# Altium schematic symbol library 74ac-logic.SCHLIB: 136 symbols (part 1 of 2)
Pins are listed as number, name and electrical type; pins without a type are passive.

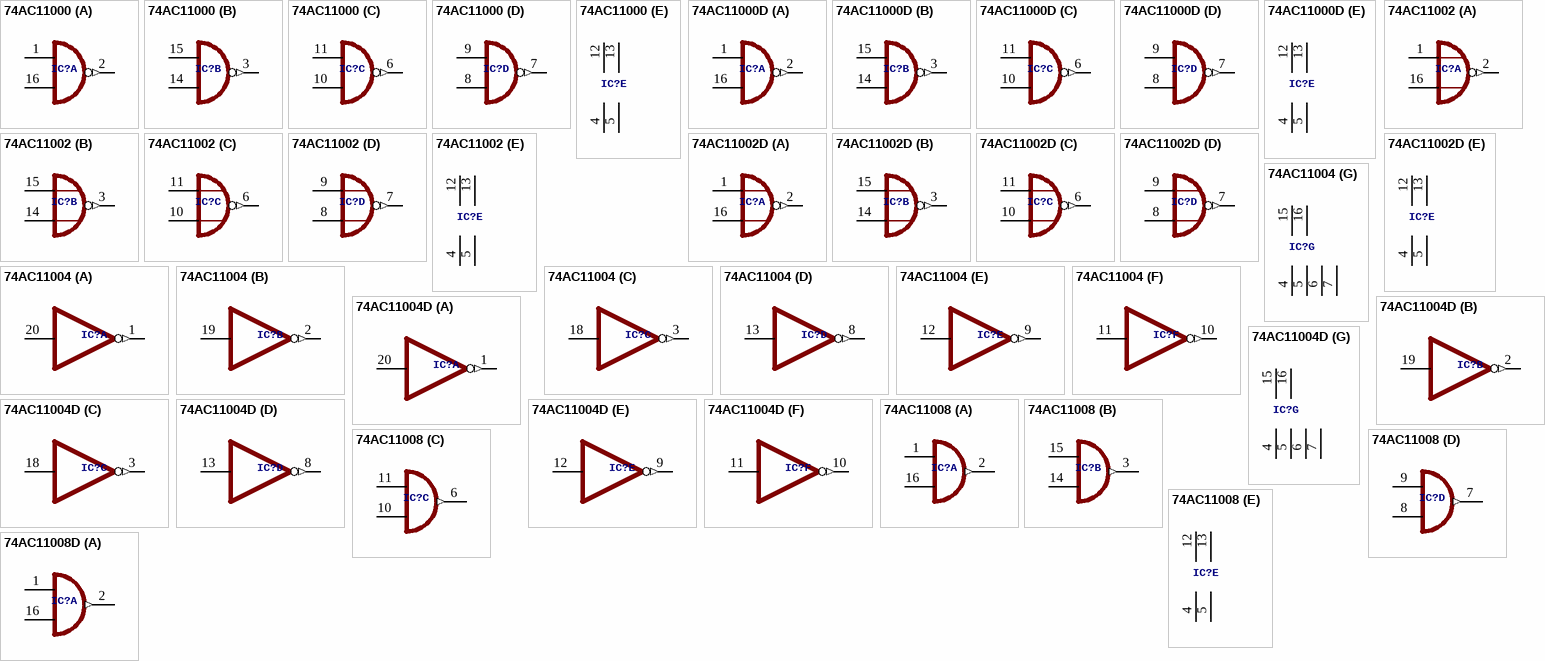
[diagram p0: symbols 74AC11000 to 74AC11008D]

## 74AC11000
designator IC?, comment Quadruple 2-input NAND  (value not drawn)
footprint DIL16
part A pins: 1 I0, 2 O (out), 16 I1
part B pins: 3 O (out), 14 I1, 15 I0
part C pins: 6 O (out), 10 I1, 11 I0
part D pins: 7 O (out), 8 I1, 9 I0
part E pins: 4 GND@1 (power), 5 GND@2 (power), 12 VCC@1 (power), 13 VCC@2 (power)

## 74AC11000D
designator IC?, comment Quadruple 2-input NAND  (value not drawn)
footprint SO16
part A pins: 1 I0, 2 O (out), 16 I1
part B pins: 3 O (out), 14 I1, 15 I0
part C pins: 6 O (out), 10 I1, 11 I0
part D pins: 7 O (out), 8 I1, 9 I0
part E pins: 4 GND@1 (power), 5 GND@2 (power), 12 VCC@1 (power), 13 VCC@2 (power)

## 74AC11002
designator IC?, comment Quadruple 2-input NOR  (value not drawn)
footprint DIL16
part A pins: 1 I0, 2 O (out), 16 I1
part B pins: 3 O (out), 14 I1, 15 I0
part C pins: 6 O (out), 10 I1, 11 I0
part D pins: 7 O (out), 8 I1, 9 I0
part E pins: 4 GND@1 (power), 5 GND@2 (power), 12 VCC@1 (power), 13 VCC@2 (power)

## 74AC11002D
designator IC?, comment Quadruple 2-input NOR  (value not drawn)
footprint SO16
part A pins: 1 I0, 2 O (out), 16 I1
part B pins: 3 O (out), 14 I1, 15 I0
part C pins: 6 O (out), 10 I1, 11 I0
part D pins: 7 O (out), 8 I1, 9 I0
part E pins: 4 GND@1 (power), 5 GND@2 (power), 12 VCC@1 (power), 13 VCC@2 (power)

## 74AC11004
designator IC?, comment Hex INVERTER  (value not drawn)
footprint DIL20
part A pins: 1 O (out), 20 I
part B pins: 2 O (out), 19 I
part C pins: 3 O (out), 18 I
part D pins: 8 O (out), 13 I
part E pins: 9 O (out), 12 I
part F pins: 10 O (out), 11 I
part G pins: 4 GND@1 (power), 5 GND@2 (power), 6 GND@3 (power), 7 GND@4 (power), 15 VCC@1 (power), 16 VCC@2 (power)

## 74AC11004D
designator IC?, comment Hex INVERTER  (value not drawn)
footprint SO20W
part A pins: 1 O (out), 20 I
part B pins: 2 O (out), 19 I
part C pins: 3 O (out), 18 I
part D pins: 8 O (out), 13 I
part E pins: 9 O (out), 12 I
part F pins: 10 O (out), 11 I
part G pins: 4 GND@1 (power), 5 GND@2 (power), 6 GND@3 (power), 7 GND@4 (power), 15 VCC@1 (power), 16 VCC@2 (power)

## 74AC11008
designator IC?, comment Quadruple 2-input AND  (value not drawn)
footprint DIL16
part A pins: 1 I0, 2 O (out), 16 I1
part B pins: 3 O (out), 14 I1, 15 I0
part C pins: 6 O (out), 10 I1, 11 I0
part D pins: 7 O (out), 8 I1, 9 I0
part E pins: 4 GND@1 (power), 5 GND@2 (power), 12 VCC@1 (power), 13 VCC@2 (power)

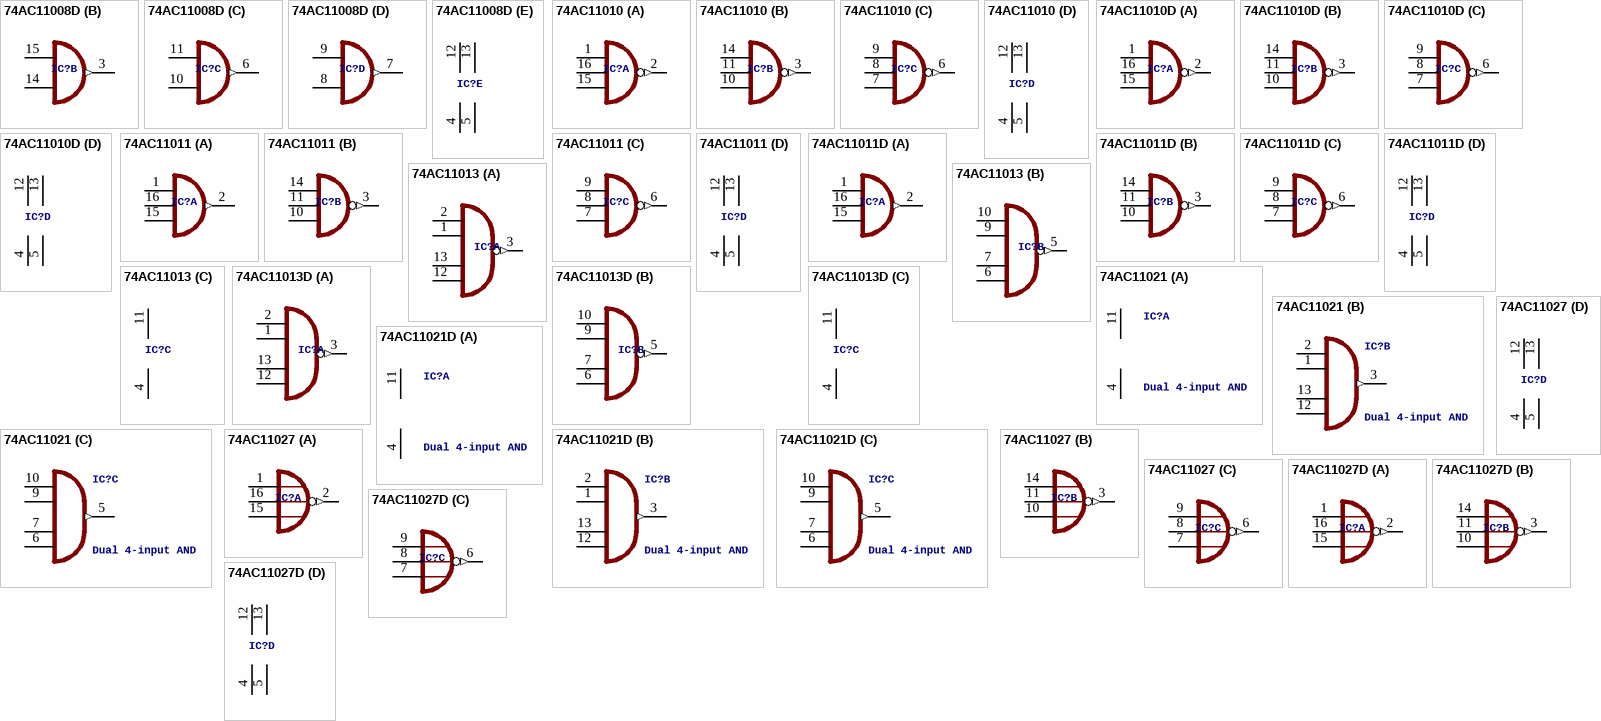
[diagram p1: symbols 74AC11008D to 74AC11027D]

## 74AC11008D
designator IC?, comment Quadruple 2-input AND  (value not drawn)
footprint SO16
part A pins: 1 I0, 2 O (out), 16 I1
part B pins: 3 O (out), 14 I1, 15 I0
part C pins: 6 O (out), 10 I1, 11 I0
part D pins: 7 O (out), 8 I1, 9 I0
part E pins: 4 GND@1 (power), 5 GND@2 (power), 12 VCC@1 (power), 13 VCC@2 (power)

## 74AC11010
designator IC?, comment Triple 3-input NAND  (value not drawn)
footprint DIL16
part A pins: 1 I0, 2 O (out), 15 I2, 16 I1
part B pins: 3 O (out), 10 I2, 11 I1, 14 I0
part C pins: 6 O (out), 7 I2, 8 I1, 9 I0
part D pins: 4 GND@1 (power), 5 GND@2 (power), 12 VCC@1 (power), 13 VCC@2 (power)

## 74AC11010D
designator IC?, comment Triple 3-input NAND  (value not drawn)
footprint SO16
part A pins: 1 I0, 2 O (out), 15 I2, 16 I1
part B pins: 3 O (out), 10 I2, 11 I1, 14 I0
part C pins: 6 O (out), 7 I2, 8 I1, 9 I0
part D pins: 4 GND@1 (power), 5 GND@2 (power), 12 VCC@1 (power), 13 VCC@2 (power)

## 74AC11011
designator IC?, comment Triple 3-input AND  (value not drawn)
footprint DIL16
part A pins: 1 I0, 2 O (out), 15 I2, 16 I1
part B pins: 3 O (out), 10 I2, 11 I1, 14 I0
part C pins: 6 O (out), 7 I2, 8 I1, 9 I0
part D pins: 4 GND@1 (power), 5 GND@2 (power), 12 VCC@1 (power), 13 VCC@2 (power)

## 74AC11011D
designator IC?, comment Triple 3-input AND  (value not drawn)
footprint SO16
part A pins: 1 I0, 2 O (out), 15 I2, 16 I1
part B pins: 3 O (out), 10 I2, 11 I1, 14 I0
part C pins: 6 O (out), 7 I2, 8 I1, 9 I0
part D pins: 4 GND@1 (power), 5 GND@2 (power), 12 VCC@1 (power), 13 VCC@2 (power)

## 74AC11013
designator IC?, comment Dual 4-input NAND, schmitt trigger  (value not drawn)
footprint DIL14
part A pins: 1 I1, 2 I0, 3 O (out), 12 I3, 13 I2
part B pins: 5 O (out), 6 I3, 7 I2, 9 I1, 10 I0
part C pins: 4 GND (power), 11 VCC (power)

## 74AC11013D
designator IC?, comment Dual 4-input NAND, schmitt trigger  (value not drawn)
footprint SO14
part A pins: 1 I1, 2 I0, 3 O (out), 12 I3, 13 I2
part B pins: 5 O (out), 6 I3, 7 I2, 9 I1, 10 I0
part C pins: 4 GND (power), 11 VCC (power)

## 74AC11021
designator IC?, comment Dual 4-input AND
footprint DIL14
part A pins: 4 GND (power), 11 VCC (power)
part B pins: 1 I1, 2 I0, 3 O (out), 12 I3, 13 I2
part C pins: 5 O (out), 6 I3, 7 I2, 9 I1, 10 I0

## 74AC11021D
designator IC?, comment Dual 4-input AND
footprint SO14
part A pins: 4 GND (power), 11 VCC (power)
part B pins: 1 I1, 2 I0, 3 O (out), 12 I3, 13 I2
part C pins: 5 O (out), 6 I3, 7 I2, 9 I1, 10 I0

## 74AC11027
designator IC?, comment Triple 3-input NOR  (value not drawn)
footprint DIL16
part A pins: 1 I0, 2 O (out), 15 I2, 16 I1
part B pins: 3 O (out), 10 I2, 11 I1, 14 I0
part C pins: 6 O (out), 7 I2, 8 I1, 9 I0
part D pins: 4 GND@1 (power), 5 GND@2 (power), 12 VCC@1 (power), 13 VCC@2 (power)

## 74AC11027D
designator IC?, comment Triple 3-input NOR  (value not drawn)
footprint SO16
part A pins: 1 I0, 2 O (out), 15 I2, 16 I1
part B pins: 3 O (out), 10 I2, 11 I1, 14 I0
part C pins: 6 O (out), 7 I2, 8 I1, 9 I0
part D pins: 4 GND@1 (power), 5 GND@2 (power), 12 VCC@1 (power), 13 VCC@2 (power)

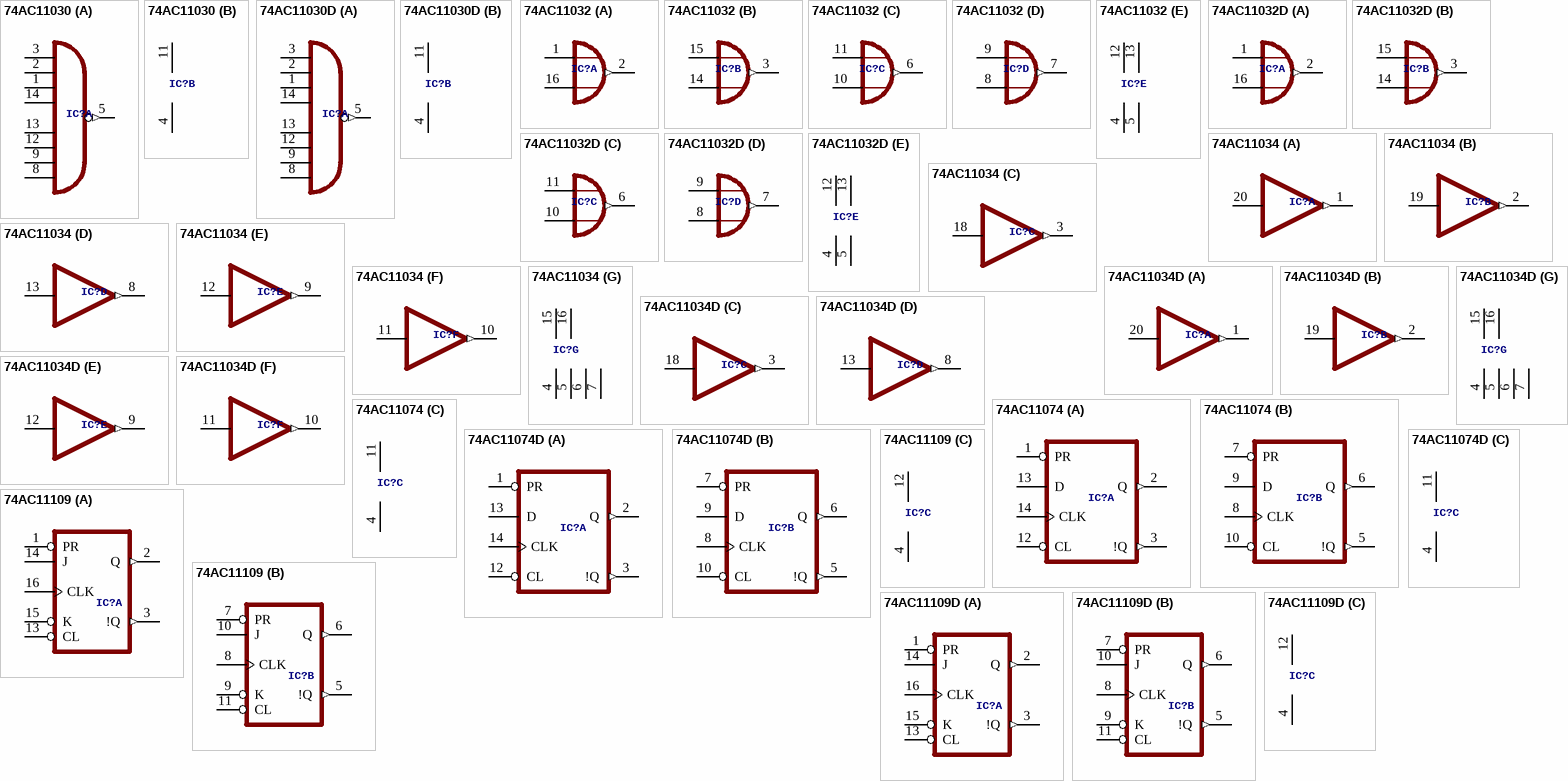
[diagram p2: symbols 74AC11030 to 74AC11109D]

## 74AC11030
designator IC?, comment 8-input NAND  (value not drawn)
footprint DIL14
part A pins: 1 I2, 2 I1, 3 I0, 5 O (out), 8 I7, 9 I6, 12 I5, 13 I4, 14 I3
part B pins: 4 GND (power), 11 VCC (power)

## 74AC11030D
designator IC?, comment 8-input NAND  (value not drawn)
footprint SO14
part A pins: 1 I2, 2 I1, 3 I0, 5 O (out), 8 I7, 9 I6, 12 I5, 13 I4, 14 I3
part B pins: 4 GND (power), 11 VCC (power)

## 74AC11032
designator IC?, comment Quadruple 2-input OR  (value not drawn)
footprint DIL16
part A pins: 1 I1, 2 O (out), 16 I2
part B pins: 3 O (out), 14 I2, 15 I1
part C pins: 6 O (out), 10 I2, 11 I1
part D pins: 7 O (out), 8 I2, 9 I1
part E pins: 4 GND@1 (power), 5 GND@2 (power), 12 VCC@1 (power), 13 VCC@2 (power)

## 74AC11032D
designator IC?, comment Quadruple 2-input OR  (value not drawn)
footprint SO16
part A pins: 1 I1, 2 O (out), 16 I2
part B pins: 3 O (out), 14 I2, 15 I1
part C pins: 6 O (out), 10 I2, 11 I1
part D pins: 7 O (out), 8 I2, 9 I1
part E pins: 4 GND@1 (power), 5 GND@2 (power), 12 VCC@1 (power), 13 VCC@2 (power)

## 74AC11034
designator IC?, comment Hex non-inverting DRIVER  (value not drawn)
footprint DIL20
part A pins: 1 O (out), 20 I
part B pins: 2 O (out), 19 I
part C pins: 3 O (out), 18 I
part D pins: 8 O (out), 13 I
part E pins: 9 O (out), 12 I
part F pins: 10 O (out), 11 I
part G pins: 4 GND@1 (power), 5 GND@2 (power), 6 GND@3 (power), 7 GND@4 (power), 15 VCC@1 (power), 16 VCC@2 (power)

## 74AC11034D
designator IC?, comment Hex non-inverting DRIVER  (value not drawn)
footprint SO20W
part A pins: 1 O (out), 20 I
part B pins: 2 O (out), 19 I
part C pins: 3 O (out), 18 I
part D pins: 8 O (out), 13 I
part E pins: 9 O (out), 12 I
part F pins: 10 O (out), 11 I
part G pins: 4 GND@1 (power), 5 GND@2 (power), 6 GND@3 (power), 7 GND@4 (power), 15 VCC@1 (power), 16 VCC@2 (power)

## 74AC11074
designator IC?, comment Dual positive edge triggered D-type FLIP FLOP  (value not drawn)
footprint DIL14
part A pins: 1 PR, 2 Q (out), 3 !Q (out), 12 CL, 13 D, 14 CLK
part B pins: 5 !Q (out), 6 Q (out), 7 PR, 8 CLK, 9 D, 10 CL
part C pins: 4 GND (power), 11 VCC (power)

## 74AC11074D
designator IC?, comment Dual positive edge triggered D-type FLIP FLOP  (value not drawn)
footprint SO14
part A pins: 1 PR, 2 Q (out), 3 !Q (out), 12 CL, 13 D, 14 CLK
part B pins: 5 !Q (out), 6 Q (out), 7 PR, 8 CLK, 9 D, 10 CL
part C pins: 4 GND (power), 11 VCC (power)

## 74AC11109
designator IC?, comment Dual J-K positive edge triggered FLIP FLOP  (value not drawn)
footprint DIL16
part A pins: 1 PR, 2 Q (out), 3 !Q (out), 13 CL, 14 J, 15 K, 16 CLK
part B pins: 5 !Q (out), 6 Q (out), 7 PR, 8 CLK, 9 K, 10 J, 11 CL
part C pins: 4 GND (power), 12 VCC (power)

## 74AC11109D
designator IC?, comment Dual J-K positive edge triggered FLIP FLOP  (value not drawn)
footprint SO16
part A pins: 1 PR, 2 Q (out), 3 !Q (out), 13 CL, 14 J, 15 K, 16 CLK
part B pins: 5 !Q (out), 6 Q (out), 7 PR, 8 CLK, 9 K, 10 J, 11 CL
part C pins: 4 GND (power), 12 VCC (power)

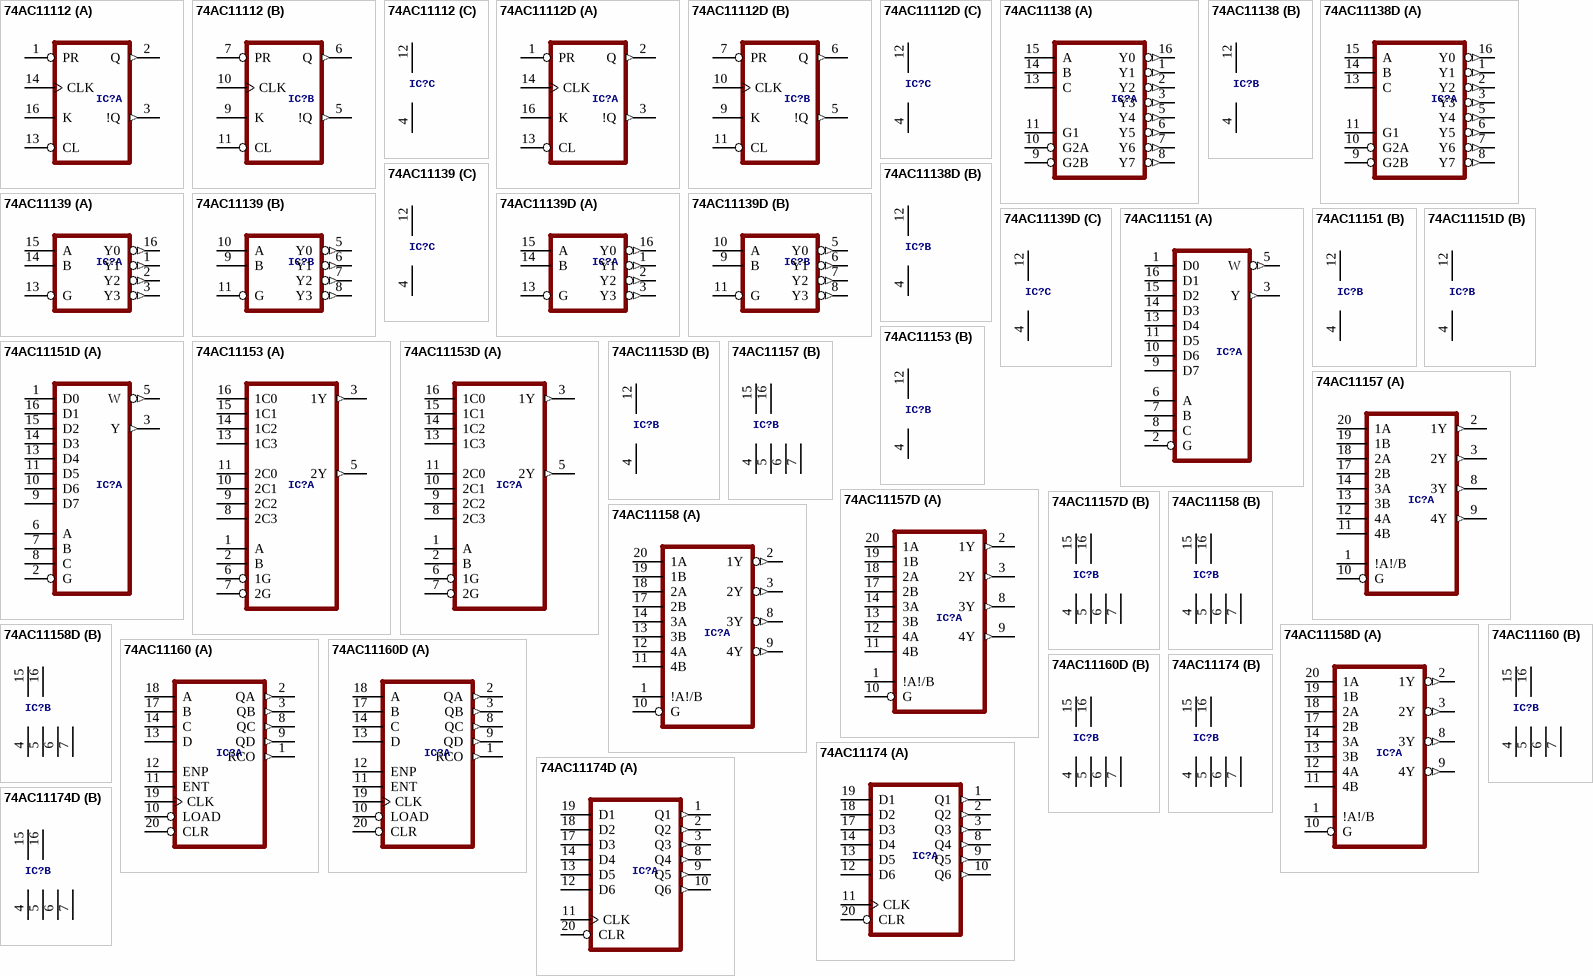
[diagram p3: symbols 74AC11112 to 74AC11174D]

## 74AC11112
designator IC?, comment Dual J-K negative edge triggered FLIP FLOP  (value not drawn)
footprint DIL16
part A pins: 1 PR, 2 Q (out), 3 !Q (out), 13 CL, 14 CLK, 16 K
part B pins: 5 !Q (out), 6 Q (out), 7 PR, 9 K, 10 CLK, 11 CL
part C pins: 4 GND (power), 12 VCC (power)

## 74AC11112D
designator IC?, comment Dual J-K negative edge triggered FLIP FLOP  (value not drawn)
footprint SO16
part A pins: 1 PR, 2 Q (out), 3 !Q (out), 13 CL, 14 CLK, 16 K
part B pins: 5 !Q (out), 6 Q (out), 7 PR, 9 K, 10 CLK, 11 CL
part C pins: 4 GND (power), 12 VCC (power)

## 74AC11138
designator IC?, comment 3 to 8 line DECODER/DEMULTIPLEXER  (value not drawn)
footprint DIL16
part A pins: 1 Y1 (out), 2 Y2 (out), 3 Y3 (out), 5 Y4 (out), 6 Y5 (out), 7 Y6 (out), 8 Y7 (out), 9 G2B, 10 G2A, 11 G1, 13 C, 14 B, 15 A, 16 Y0 (out)
part B pins: 4 GND (power), 12 VCC (power)

## 74AC11138D
designator IC?, comment 3 to 8 line DECODER/DEMULTIPLEXER  (value not drawn)
footprint SO16
part A pins: 1 Y1 (out), 2 Y2 (out), 3 Y3 (out), 5 Y4 (out), 6 Y5 (out), 7 Y6 (out), 8 Y7 (out), 9 G2B, 10 G2A, 11 G1, 13 C, 14 B, 15 A, 16 Y0 (out)
part B pins: 4 GND (power), 12 VCC (power)

## 74AC11139
designator IC?, comment Dual 2 to 4 line DECODER/DEMULTIPLEXER  (value not drawn)
footprint DIL16
part A pins: 1 Y1 (out), 2 Y2 (out), 3 Y3 (out), 13 G, 14 B, 15 A, 16 Y0 (out)
part B pins: 5 Y0 (out), 6 Y1 (out), 7 Y2 (out), 8 Y3 (out), 9 B, 10 A, 11 G
part C pins: 4 GND (power), 12 VCC (power)

## 74AC11139D
designator IC?, comment Dual 2 to 4 line DECODER/DEMULTIPLEXER  (value not drawn)
footprint SO16
part A pins: 1 Y1 (out), 2 Y2 (out), 3 Y3 (out), 13 G, 14 B, 15 A, 16 Y0 (out)
part B pins: 5 Y0 (out), 6 Y1 (out), 7 Y2 (out), 8 Y3 (out), 9 B, 10 A, 11 G
part C pins: 4 GND (power), 12 VCC (power)

## 74AC11151
designator IC?, comment 1 of 8 DATA SELECTOR/MULTIPLEXER  (value not drawn)
footprint DIL16
part A pins: 1 D0, 2 G, 3 Y (out), 5 W (out), 6 A, 7 B, 8 C, 9 D7, 10 D6, 11 D5, 13 D4, 14 D3, 15 D2, 16 D1
part B pins: 4 GND (power), 12 VCC (power)

## 74AC11151D
designator IC?, comment 1 of 8 DATA SELECTOR/MULTIPLEXER  (value not drawn)
footprint SO16
part A pins: 1 D0, 2 G, 3 Y (out), 5 W (out), 6 A, 7 B, 8 C, 9 D7, 10 D6, 11 D5, 13 D4, 14 D3, 15 D2, 16 D1
part B pins: 4 GND (power), 12 VCC (power)

## 74AC11153
designator IC?, comment Dual 1 of 4 DATA SELECTOR/MULTIPLEXER  (value not drawn)
footprint DIL16
part A pins: 1 A, 2 B, 3 1Y (out), 5 2Y (out), 6 1G, 7 2G, 8 2C3, 9 2C2, 10 2C1, 11 2C0, 13 1C3, 14 1C2, 15 1C1, 16 1C0
part B pins: 4 GND (power), 12 VCC (power)

## 74AC11153D
designator IC?, comment Dual 1 of 4 DATA SELECTOR/MULTIPLEXER  (value not drawn)
footprint SO16
part A pins: 1 A, 2 B, 3 1Y (out), 5 2Y (out), 6 1G, 7 2G, 8 2C3, 9 2C2, 10 2C1, 11 2C0, 13 1C3, 14 1C2, 15 1C1, 16 1C0
part B pins: 4 GND (power), 12 VCC (power)

## 74AC11157
designator IC?, comment Quadruple 2 to 1 line DATA SELECTOR/MULTIPLEXER  (value not drawn)
footprint DIL20
part A pins: 1 !A!/B, 2 1Y (out), 3 2Y (out), 8 3Y (out), 9 4Y (out), 10 G, 11 4B, 12 4A, 13 3B, 14 3A, 17 2B, 18 2A, 19 1B, 20 1A
part B pins: 4 GND@1 (power), 5 GND@2 (power), 6 GND@3 (power), 7 GND@4 (power), 15 VCC@1 (power), 16 VCC@2 (power)

## 74AC11157D
designator IC?, comment Quadruple 2 to 1 line DATA SELECTOR/MULTIPLEXER  (value not drawn)
footprint SO20W
part A pins: 1 !A!/B, 2 1Y (out), 3 2Y (out), 8 3Y (out), 9 4Y (out), 10 G, 11 4B, 12 4A, 13 3B, 14 3A, 17 2B, 18 2A, 19 1B, 20 1A
part B pins: 4 GND@1 (power), 5 GND@2 (power), 6 GND@3 (power), 7 GND@4 (power), 15 VCC@1 (power), 16 VCC@2 (power)

## 74AC11158
designator IC?, comment Quadruple 2 to 1 line DATA SELECTOR/MULTIPLEXER  (value not drawn)
footprint DIL20
part A pins: 1 !A!/B, 2 1Y (out), 3 2Y (out), 8 3Y (out), 9 4Y (out), 10 G, 11 4B, 12 4A, 13 3B, 14 3A, 17 2B, 18 2A, 19 1B, 20 1A
part B pins: 4 GND@1 (power), 5 GND@2 (power), 6 GND@3 (power), 7 GND@4 (power), 15 VCC@1 (power), 16 VCC@2 (power)

## 74AC11158D
designator IC?, comment Quadruple 2 to 1 line DATA SELECTOR/MULTIPLEXER  (value not drawn)
footprint SO20W
part A pins: 1 !A!/B, 2 1Y (out), 3 2Y (out), 8 3Y (out), 9 4Y (out), 10 G, 11 4B, 12 4A, 13 3B, 14 3A, 17 2B, 18 2A, 19 1B, 20 1A
part B pins: 4 GND@1 (power), 5 GND@2 (power), 6 GND@3 (power), 7 GND@4 (power), 15 VCC@1 (power), 16 VCC@2 (power)

## 74AC11160
designator IC?, comment Synchronous 4-bit decade Counter  (value not drawn)
footprint DIL20
part A pins: 1 RCO (out), 2 QA (out), 3 QB (out), 8 QC (out), 9 QD (out), 10 LOAD, 11 ENT, 12 ENP, 13 D, 14 C, 17 B, 18 A, 19 CLK, 20 CLR
part B pins: 4 GND@1 (power), 5 GND@2 (power), 6 GND@3 (power), 7 GND@4 (power), 15 VCC@1 (power), 16 VCC@2 (power)

## 74AC11160D
designator IC?, comment Synchronous 4-bit decade Counter  (value not drawn)
footprint SO20W
part A pins: 1 RCO (out), 2 QA (out), 3 QB (out), 8 QC (out), 9 QD (out), 10 LOAD, 11 ENT, 12 ENP, 13 D, 14 C, 17 B, 18 A, 19 CLK, 20 CLR
part B pins: 4 GND@1 (power), 5 GND@2 (power), 6 GND@3 (power), 7 GND@4 (power), 15 VCC@1 (power), 16 VCC@2 (power)

## 74AC11174
designator IC?, comment 6-bit positive edge triggered D-type FLIP FLOP  (value not drawn)
footprint DIL20
part A pins: 1 Q1 (out), 2 Q2 (out), 3 Q3 (out), 8 Q4 (out), 9 Q5 (out), 10 Q6 (out), 11 CLK, 12 D6, 13 D5, 14 D4, 17 D3, 18 D2, 19 D1, 20 CLR
part B pins: 4 GND@1 (power), 5 GND@2 (power), 6 GND@3 (power), 7 GND@4 (power), 15 VCC@1 (power), 16 VCC@2 (power)

## 74AC11174D
designator IC?, comment 6-bit positive edge triggered D-type FLIP FLOP  (value not drawn)
footprint SO20W
part A pins: 1 Q1 (out), 2 Q2 (out), 3 Q3 (out), 8 Q4 (out), 9 Q5 (out), 10 Q6 (out), 11 CLK, 12 D6, 13 D5, 14 D4, 17 D3, 18 D2, 19 D1, 20 CLR
part B pins: 4 GND@1 (power), 5 GND@2 (power), 6 GND@3 (power), 7 GND@4 (power), 15 VCC@1 (power), 16 VCC@2 (power)

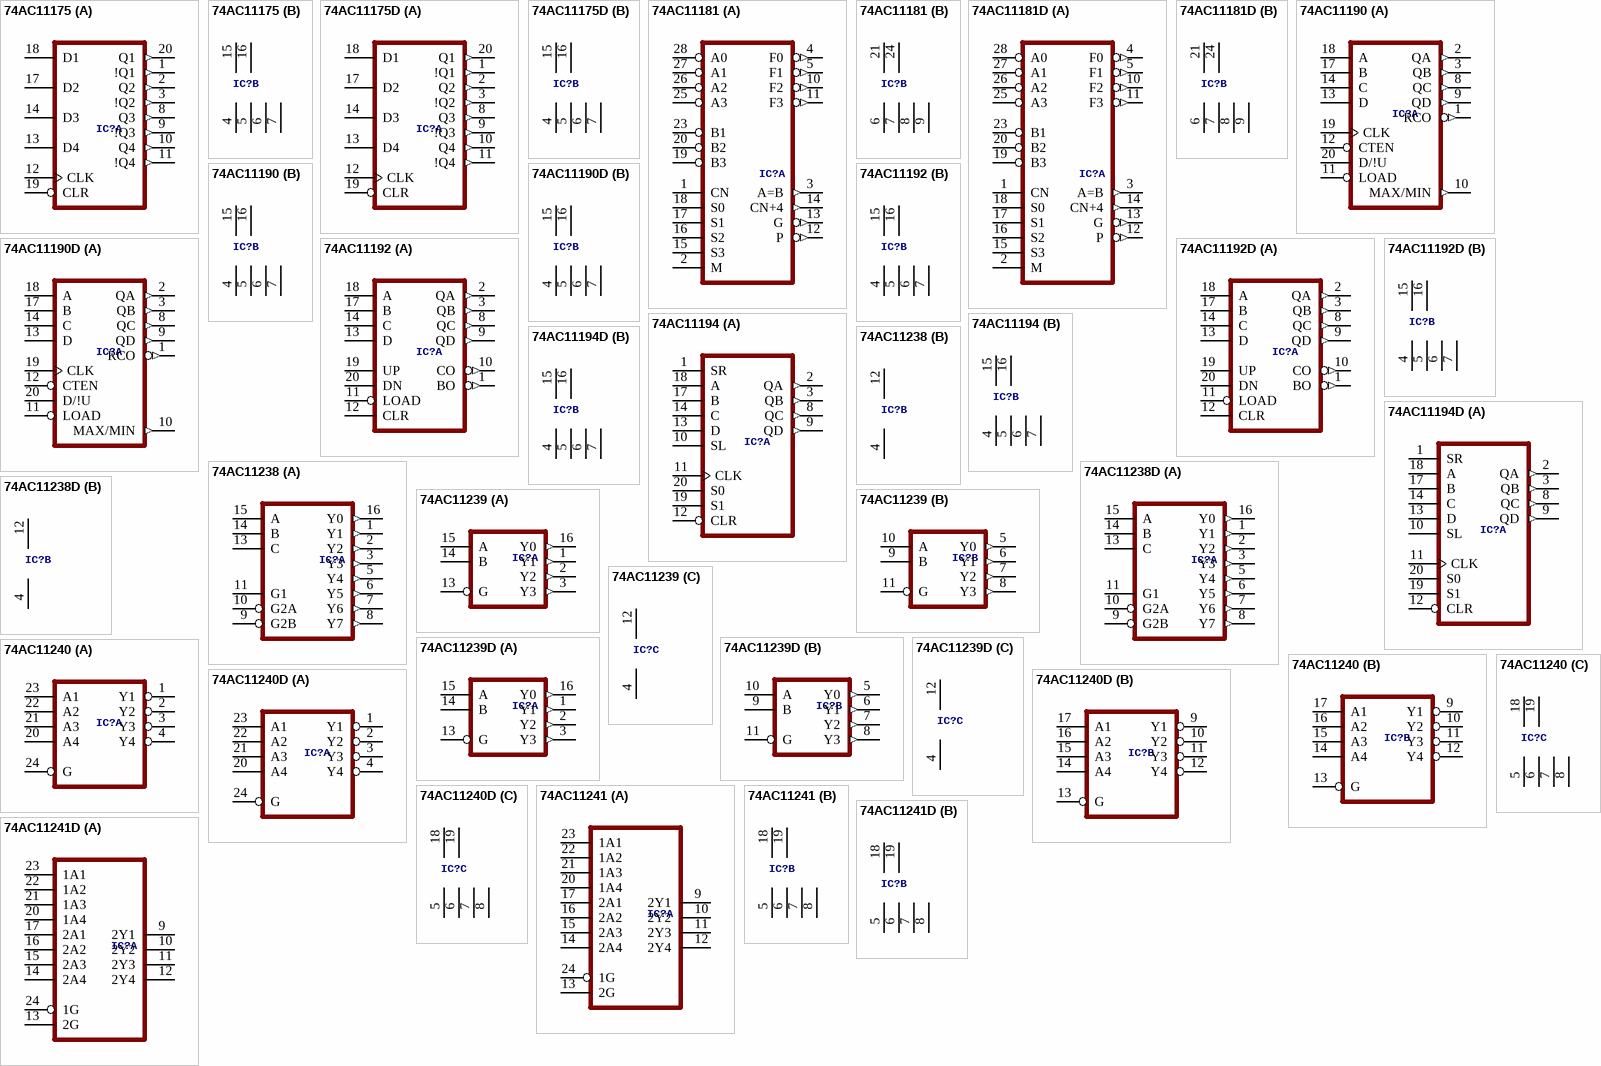
[diagram p4: symbols 74AC11175 to 74AC11241D]

## 74AC11175
designator IC?, comment Quadruple positive edge triggered D-type Flip-Flop  (value not drawn)
footprint DIL20
part A pins: 1 !Q1 (out), 2 Q2 (out), 3 !Q2 (out), 8 Q3 (out), 9 !Q3 (out), 10 Q4 (out), 11 !Q4 (out), 12 CLK, 13 D4, 14 D3, 17 D2, 18 D1, 19 CLR, 20 Q1 (out)
part B pins: 4 GND@1 (power), 5 GND@2 (power), 6 GND@3 (power), 7 GND@4 (power), 15 VCC@1 (power), 16 VCC@2 (power)

## 74AC11175D
designator IC?, comment Quadruple positive edge triggered D-type Flip-Flop  (value not drawn)
footprint SO20W
part A pins: 1 !Q1 (out), 2 Q2 (out), 3 !Q2 (out), 8 Q3 (out), 9 !Q3 (out), 10 Q4 (out), 11 !Q4 (out), 12 CLK, 13 D4, 14 D3, 17 D2, 18 D1, 19 CLR, 20 Q1 (out)
part B pins: 4 GND@1 (power), 5 GND@2 (power), 6 GND@3 (power), 7 GND@4 (power), 15 VCC@1 (power), 16 VCC@2 (power)

## 74AC11181
designator IC?, comment ALU/FUNCTION GENERATOR  (value not drawn)
footprint DIL28-6
part A pins: 1 CN, 2 M, 3 A=B (out), 4 F0 (out), 5 F1 (out), 10 F2 (out), 11 F3 (out), 12 P (out), 13 G (out), 14 CN+4 (out), 15 S3, 16 S2, 17 S1, 18 S0, 19 B3, 20 B2, 23 B1, 25 A3, 26 A2, 27 A1, 28 A0
part B pins: 6 GND@1 (power), 7 GND@2 (power), 8 GND@3 (power), 9 GND@4 (power), 21 VCC@1 (power), 24 VCC@2 (power)

## 74AC11181D
designator IC?, comment ALU/FUNCTION GENERATOR  (value not drawn)
footprint SO28W
part A pins: 1 CN, 2 M, 3 A=B (out), 4 F0 (out), 5 F1 (out), 10 F2 (out), 11 F3 (out), 12 P (out), 13 G (out), 14 CN+4 (out), 15 S3, 16 S2, 17 S1, 18 S0, 19 B3, 20 B2, 23 B1, 25 A3, 26 A2, 27 A1, 28 A0
part B pins: 6 GND@1 (power), 7 GND@2 (power), 8 GND@3 (power), 9 GND@4 (power), 21 VCC@1 (power), 24 VCC@2 (power)

## 74AC11190
designator IC?, comment Synchronous 4-bit up down decade COUNTER  (value not drawn)
footprint DIL20
part A pins: 1 RCO (out), 2 QA (out), 3 QB (out), 8 QC (out), 9 QD (out), 10 MAX/MIN (out), 11 LOAD, 12 CTEN, 13 D, 14 C, 17 B, 18 A, 19 CLK, 20 D/!U
part B pins: 4 GND@1 (power), 5 GND@2 (power), 6 GND@3 (power), 7 GND@4 (power), 15 VCC@1 (power), 16 VCC@2 (power)

## 74AC11190D
designator IC?, comment Synchronous 4-bit up down decade COUNTER  (value not drawn)
footprint SO20W
part A pins: 1 RCO (out), 2 QA (out), 3 QB (out), 8 QC (out), 9 QD (out), 10 MAX/MIN (out), 11 LOAD, 12 CTEN, 13 D, 14 C, 17 B, 18 A, 19 CLK, 20 D/!U
part B pins: 4 GND@1 (power), 5 GND@2 (power), 6 GND@3 (power), 7 GND@4 (power), 15 VCC@1 (power), 16 VCC@2 (power)

## 74AC11192
designator IC?, comment Up down COUNTER  (value not drawn)
footprint DIL20
part A pins: 1 BO (out), 2 QA (out), 3 QB (out), 8 QC (out), 9 QD (out), 10 CO (out), 11 LOAD, 12 CLR, 13 D, 14 C, 17 B, 18 A, 19 UP, 20 DN
part B pins: 4 GND@1 (power), 5 GND@2 (power), 6 GND@3 (power), 7 GND@4 (power), 15 VCC@1 (power), 16 VCC@2 (power)

## 74AC11192D
designator IC?, comment Up down COUNTER  (value not drawn)
footprint SO20W
part A pins: 1 BO (out), 2 QA (out), 3 QB (out), 8 QC (out), 9 QD (out), 10 CO (out), 11 LOAD, 12 CLR, 13 D, 14 C, 17 B, 18 A, 19 UP, 20 DN
part B pins: 4 GND@1 (power), 5 GND@2 (power), 6 GND@3 (power), 7 GND@4 (power), 15 VCC@1 (power), 16 VCC@2 (power)

## 74AC11194
designator IC?, comment 4-bit bidirectional universal SHIFT REGISTER  (value not drawn)
footprint DIL20
part A pins: 1 SR, 2 QA (out), 3 QB (out), 8 QC (out), 9 QD (out), 10 SL, 11 CLK, 12 CLR, 13 D, 14 C, 17 B, 18 A, 19 S1, 20 S0
part B pins: 4 GND@1 (power), 5 GND@2 (power), 6 GND@3 (power), 7 GND@4 (power), 15 VCC@1 (power), 16 VCC@2 (power)

## 74AC11194D
designator IC?, comment 4-bit bidirectional universal SHIFT REGISTER  (value not drawn)
footprint SO20W
part A pins: 1 SR, 2 QA (out), 3 QB (out), 8 QC (out), 9 QD (out), 10 SL, 11 CLK, 12 CLR, 13 D, 14 C, 17 B, 18 A, 19 S1, 20 S0
part B pins: 4 GND@1 (power), 5 GND@2 (power), 6 GND@3 (power), 7 GND@4 (power), 15 VCC@1 (power), 16 VCC@2 (power)

## 74AC11238
designator IC?, comment 3 to 8 line DECODER/DEMULTIPLEXER  (value not drawn)
footprint DIL16
part A pins: 1 Y1 (out), 2 Y2 (out), 3 Y3 (out), 5 Y4 (out), 6 Y5 (out), 7 Y6 (out), 8 Y7 (out), 9 G2B, 10 G2A, 11 G1, 13 C, 14 B, 15 A, 16 Y0 (out)
part B pins: 4 GND (power), 12 VCC (power)

## 74AC11238D
designator IC?, comment 3 to 8 line DECODER/DEMULTIPLEXER  (value not drawn)
footprint SO16
part A pins: 1 Y1 (out), 2 Y2 (out), 3 Y3 (out), 5 Y4 (out), 6 Y5 (out), 7 Y6 (out), 8 Y7 (out), 9 G2B, 10 G2A, 11 G1, 13 C, 14 B, 15 A, 16 Y0 (out)
part B pins: 4 GND (power), 12 VCC (power)

## 74AC11239
designator IC?, comment Dual 2 to 4 line DECODER/DEMULTIPLEXER  (value not drawn)
footprint DIL16
part A pins: 1 Y1 (out), 2 Y2 (out), 3 Y3 (out), 13 G, 14 B, 15 A, 16 Y0 (out)
part B pins: 5 Y0 (out), 6 Y1 (out), 7 Y2 (out), 8 Y3 (out), 9 B, 10 A, 11 G
part C pins: 4 GND (power), 12 VCC (power)

## 74AC11239D
designator IC?, comment Dual 2 to 4 line DECODER/DEMULTIPLEXER  (value not drawn)
footprint SO16
part A pins: 1 Y1 (out), 2 Y2 (out), 3 Y3 (out), 13 G, 14 B, 15 A, 16 Y0 (out)
part B pins: 5 Y0 (out), 6 Y1 (out), 7 Y2 (out), 8 Y3 (out), 9 B, 10 A, 11 G
part C pins: 4 GND (power), 12 VCC (power)

## 74AC11240
designator IC?, comment Octal BUFFER/DRIVER  (value not drawn)
footprint DIL24-6
part A pins: 1 Y1 (hiz), 2 Y2 (hiz), 3 Y3 (hiz), 4 Y4 (hiz), 20 A4, 21 A3, 22 A2, 23 A1, 24 G
part B pins: 9 Y1 (hiz), 10 Y2 (hiz), 11 Y3 (hiz), 12 Y4 (hiz), 13 G, 14 A4, 15 A3, 16 A2, 17 A1
part C pins: 5 GND@1 (power), 6 GND@2 (power), 7 GND@3 (power), 8 GND@4 (power), 18 VCC@1 (power), 19 VCC@2 (power)

## 74AC11240D
designator IC?, comment Octal BUFFER/DRIVER  (value not drawn)
footprint SO24W
part A pins: 1 Y1 (hiz), 2 Y2 (hiz), 3 Y3 (hiz), 4 Y4 (hiz), 20 A4, 21 A3, 22 A2, 23 A1, 24 G
part B pins: 9 Y1 (hiz), 10 Y2 (hiz), 11 Y3 (hiz), 12 Y4 (hiz), 13 G, 14 A4, 15 A3, 16 A2, 17 A1
part C pins: 5 GND@1 (power), 6 GND@2 (power), 7 GND@3 (power), 8 GND@4 (power), 18 VCC@1 (power), 19 VCC@2 (power)

## 74AC11241
designator IC?, comment Octal BUFFER/DRIVER, 3-state  (value not drawn)
footprint DIL24-6
part A pins: 9 2Y1 (hiz), 10 2Y2 (hiz), 11 2Y3 (hiz), 12 2Y4 (hiz), 13 2G, 14 2A4, 15 2A3, 16 2A2, 17 2A1, 20 1A4, 21 1A3, 22 1A2, 23 1A1, 24 1G
part B pins: 5 GND@1 (power), 6 GND@2 (power), 7 GND@3 (power), 8 GND@4 (power), 18 VCC@1 (power), 19 VCC@2 (power)

## 74AC11241D
designator IC?, comment Octal BUFFER/DRIVER, 3-state  (value not drawn)
footprint SO24W
part A pins: 9 2Y1 (hiz), 10 2Y2 (hiz), 11 2Y3 (hiz), 12 2Y4 (hiz), 13 2G, 14 2A4, 15 2A3, 16 2A2, 17 2A1, 20 1A4, 21 1A3, 22 1A2, 23 1A1, 24 1G
part B pins: 5 GND@1 (power), 6 GND@2 (power), 7 GND@3 (power), 8 GND@4 (power), 18 VCC@1 (power), 19 VCC@2 (power)

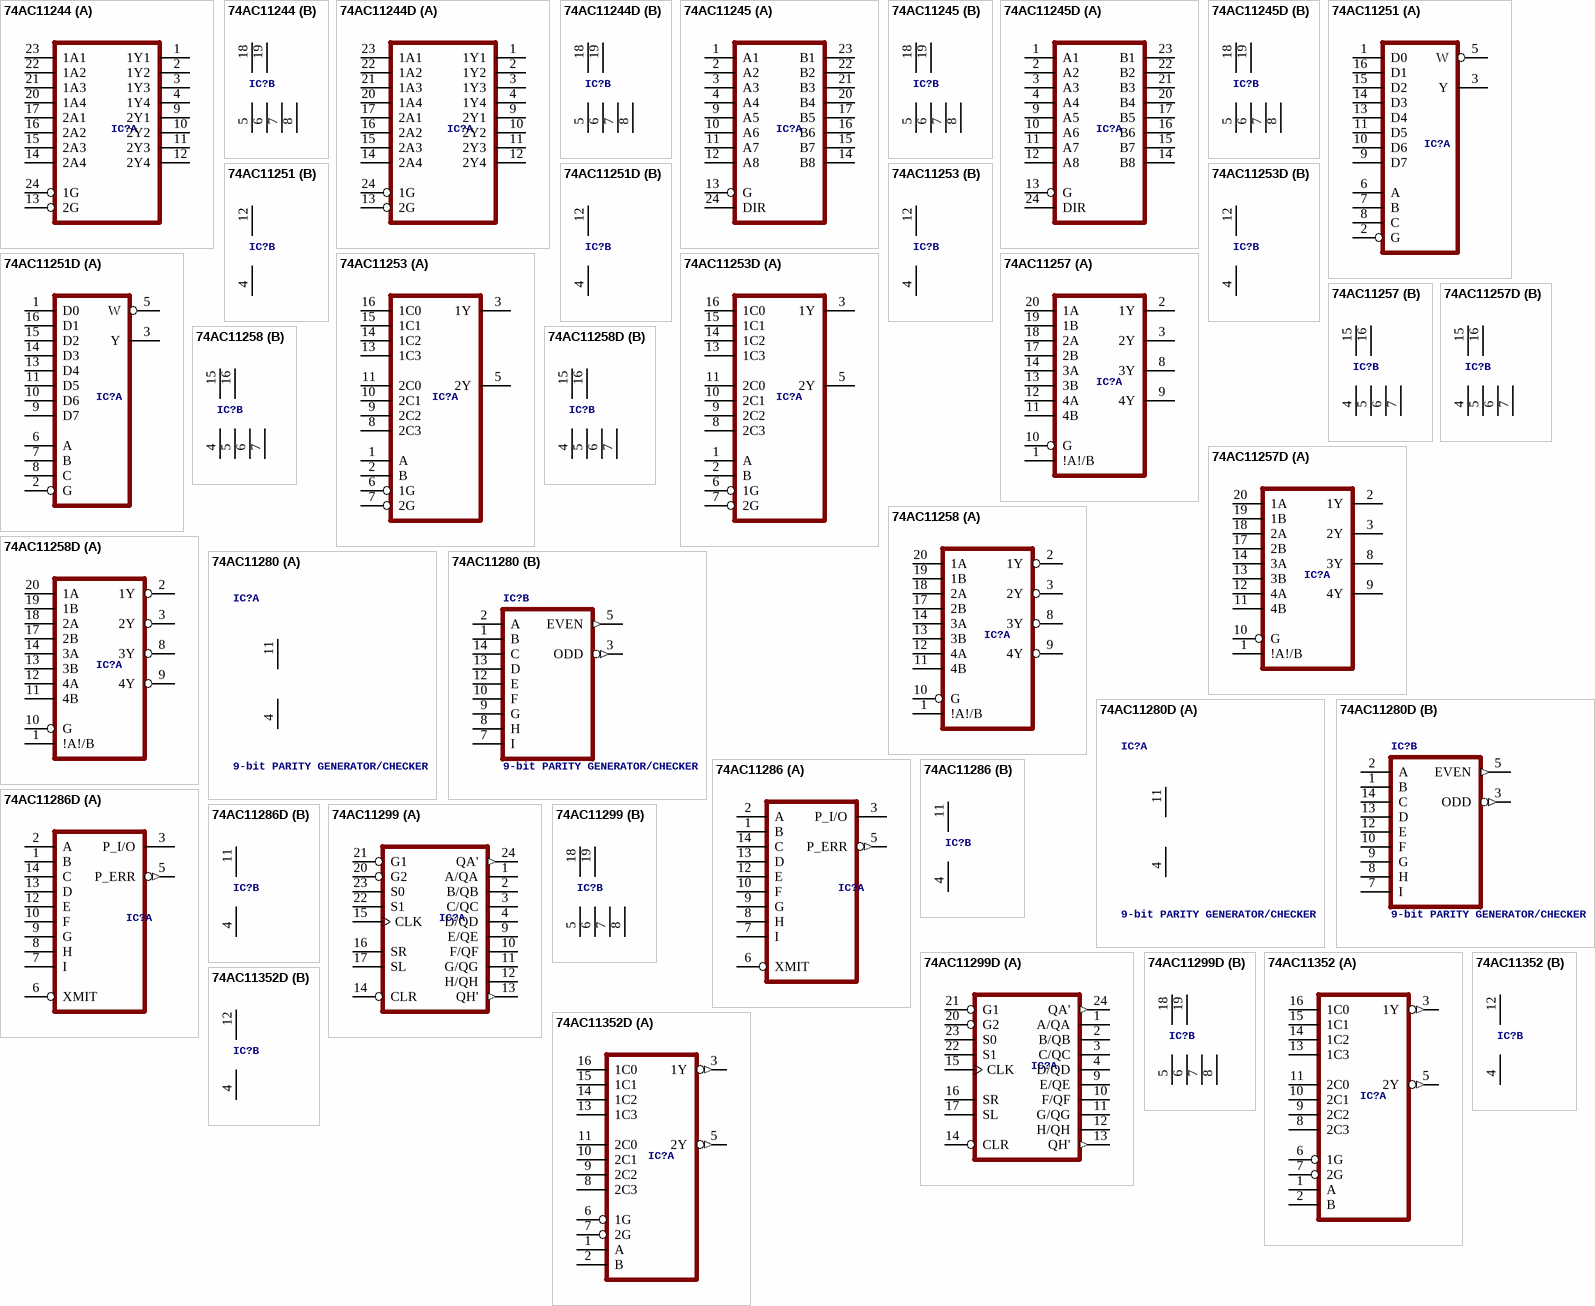
[diagram p5: symbols 74AC11244 to 74AC11352D]

## 74AC11244
designator IC?, comment Octal BUFFER/DRIVER  (value not drawn)
footprint DIL24-6
part A pins: 1 1Y1 (hiz), 2 1Y2 (hiz), 3 1Y3 (hiz), 4 1Y4 (hiz), 9 2Y1 (hiz), 10 2Y2 (hiz), 11 2Y3 (hiz), 12 2Y4 (hiz), 13 2G, 14 2A4, 15 2A3, 16 2A2, 17 2A1, 20 1A4, 21 1A3, 22 1A2, 23 1A1, 24 1G
part B pins: 5 GND@1 (power), 6 GND@2 (power), 7 GND@3 (power), 8 GND@4 (power), 18 VCC@1 (power), 19 VCC@2 (power)

## 74AC11244D
designator IC?, comment Octal BUFFER/DRIVER  (value not drawn)
footprint SO24W
part A pins: 1 1Y1 (hiz), 2 1Y2 (hiz), 3 1Y3 (hiz), 4 1Y4 (hiz), 9 2Y1 (hiz), 10 2Y2 (hiz), 11 2Y3 (hiz), 12 2Y4 (hiz), 13 2G, 14 2A4, 15 2A3, 16 2A2, 17 2A1, 20 1A4, 21 1A3, 22 1A2, 23 1A1, 24 1G
part B pins: 5 GND@1 (power), 6 GND@2 (power), 7 GND@3 (power), 8 GND@4 (power), 18 VCC@1 (power), 19 VCC@2 (power)

## 74AC11245
designator IC?, comment Octal BUS TRANSCEIVER  (value not drawn)
footprint DIL24-6
part A pins: 1 A1, 2 A2, 3 A3, 4 A4, 9 A5, 10 A6, 11 A7, 12 A8, 13 G, 14 B8, 15 B7, 16 B6, 17 B5, 20 B4, 21 B3, 22 B2, 23 B1, 24 DIR
part B pins: 5 GND@1 (power), 6 GND@2 (power), 7 GND@3 (power), 8 GND@4 (power), 18 VCC@1 (power), 19 VCC@2 (power)

## 74AC11245D
designator IC?, comment Octal BUS TRANSCEIVER  (value not drawn)
footprint SO24W
part A pins: 1 A1, 2 A2, 3 A3, 4 A4, 9 A5, 10 A6, 11 A7, 12 A8, 13 G, 14 B8, 15 B7, 16 B6, 17 B5, 20 B4, 21 B3, 22 B2, 23 B1, 24 DIR
part B pins: 5 GND@1 (power), 6 GND@2 (power), 7 GND@3 (power), 8 GND@4 (power), 18 VCC@1 (power), 19 VCC@2 (power)

## 74AC11251
designator IC?, comment 1 of 8 DATA SELECTOR/MULTIPLEXER, 3-state  (value not drawn)
footprint DIL16
part A pins: 1 D0, 2 G, 3 Y (hiz), 5 W (hiz), 6 A, 7 B, 8 C, 9 D7, 10 D6, 11 D5, 13 D4, 14 D3, 15 D2, 16 D1
part B pins: 4 GND (power), 12 VCC (power)

## 74AC11251D
designator IC?, comment 1 of 8 DATA SELECTOR/MULTIPLEXER, 3-state  (value not drawn)
footprint SO16
part A pins: 1 D0, 2 G, 3 Y (hiz), 5 W (hiz), 6 A, 7 B, 8 C, 9 D7, 10 D6, 11 D5, 13 D4, 14 D3, 15 D2, 16 D1
part B pins: 4 GND (power), 12 VCC (power)

## 74AC11253
designator IC?, comment Dual 4 to 1 line DATA SELECTOR/MULTIPLEXER  (value not drawn)
footprint DIL16
part A pins: 1 A, 2 B, 3 1Y (hiz), 5 2Y (hiz), 6 1G, 7 2G, 8 2C3, 9 2C2, 10 2C1, 11 2C0, 13 1C3, 14 1C2, 15 1C1, 16 1C0
part B pins: 4 GND (power), 12 VCC (power)

## 74AC11253D
designator IC?, comment Dual 4 to 1 line DATA SELECTOR/MULTIPLEXER  (value not drawn)
footprint SO16
part A pins: 1 A, 2 B, 3 1Y (hiz), 5 2Y (hiz), 6 1G, 7 2G, 8 2C3, 9 2C2, 10 2C1, 11 2C0, 13 1C3, 14 1C2, 15 1C1, 16 1C0
part B pins: 4 GND (power), 12 VCC (power)

## 74AC11257
designator IC?, comment Quadruple 2 to 1 line DATA SELECTOR/MULTIPLEXER, 3-state  (value not drawn)
footprint DIL20
part A pins: 1 !A!/B, 2 1Y (hiz), 3 2Y (hiz), 8 3Y (hiz), 9 4Y (hiz), 10 G, 11 4B, 12 4A, 13 3B, 14 3A, 17 2B, 18 2A, 19 1B, 20 1A
part B pins: 4 GND@1 (power), 5 GND@2 (power), 6 GND@3 (power), 7 GND@4 (power), 15 VCC@1 (power), 16 VCC@2 (power)

## 74AC11257D
designator IC?, comment Quadruple 2 to 1 line DATA SELECTOR/MULTIPLEXER, 3-state  (value not drawn)
footprint SO20W
part A pins: 1 !A!/B, 2 1Y (hiz), 3 2Y (hiz), 8 3Y (hiz), 9 4Y (hiz), 10 G, 11 4B, 12 4A, 13 3B, 14 3A, 17 2B, 18 2A, 19 1B, 20 1A
part B pins: 4 GND@1 (power), 5 GND@2 (power), 6 GND@3 (power), 7 GND@4 (power), 15 VCC@1 (power), 16 VCC@2 (power)

## 74AC11258
designator IC?, comment Quadruple 2 to 1 line DATA SELECTOR/MULTIPLEXER, 3-state  (value not drawn)
footprint DIL20
part A pins: 1 !A!/B, 2 1Y (hiz), 3 2Y (hiz), 8 3Y (hiz), 9 4Y (hiz), 10 G, 11 4B, 12 4A, 13 3B, 14 3A, 17 2B, 18 2A, 19 1B, 20 1A
part B pins: 4 GND@1 (power), 5 GND@2 (power), 6 GND@3 (power), 7 GND@4 (power), 15 VCC@1 (power), 16 VCC@2 (power)

## 74AC11258D
designator IC?, comment Quadruple 2 to 1 line DATA SELECTOR/MULTIPLEXER, 3-state  (value not drawn)
footprint SO20W
part A pins: 1 !A!/B, 2 1Y (hiz), 3 2Y (hiz), 8 3Y (hiz), 9 4Y (hiz), 10 G, 11 4B, 12 4A, 13 3B, 14 3A, 17 2B, 18 2A, 19 1B, 20 1A
part B pins: 4 GND@1 (power), 5 GND@2 (power), 6 GND@3 (power), 7 GND@4 (power), 15 VCC@1 (power), 16 VCC@2 (power)

## 74AC11280
designator IC?, comment 9-bit PARITY GENERATOR/CHECKER
footprint DIL14
part A pins: 4 GND (power), 11 VCC (power)
part B pins: 1 B, 2 A, 3 ODD (out), 5 EVEN (out), 7 I, 8 H, 9 G, 10 F, 12 E, 13 D, 14 C

## 74AC11280D
designator IC?, comment 9-bit PARITY GENERATOR/CHECKER
footprint SO14
part A pins: 4 GND (power), 11 VCC (power)
part B pins: 1 B, 2 A, 3 ODD (out), 5 EVEN (out), 7 I, 8 H, 9 G, 10 F, 12 E, 13 D, 14 C

## 74AC11286
designator IC?, comment 9-bit PARITY GENERATOR/CHECKER, bus driver  (value not drawn)
footprint DIL14
part A pins: 1 B, 2 A, 3 P_I/O, 5 P_ERR (out), 6 XMIT, 7 I, 8 H, 9 G, 10 F, 12 E, 13 D, 14 C
part B pins: 4 GND (power), 11 VCC (power)

## 74AC11286D
designator IC?, comment 9-bit PARITY GENERATOR/CHECKER, bus driver  (value not drawn)
footprint SO14
part A pins: 1 B, 2 A, 3 P_I/O, 5 P_ERR (out), 6 XMIT, 7 I, 8 H, 9 G, 10 F, 12 E, 13 D, 14 C
part B pins: 4 GND (power), 11 VCC (power)

## 74AC11299
designator IC?, comment 8-bit universal SHIFT/STORAGE REGISTER  (value not drawn)
footprint DIL24-6
part A pins: 1 A/QA, 2 B/QB, 3 C/QC, 4 D/QD, 9 E/QE, 10 F/QF, 11 G/QG, 12 H/QH, 13 QH' (out), 14 CLR, 15 CLK, 16 SR, 17 SL, 20 G2, 21 G1, 22 S1, 23 S0, 24 QA' (out)
part B pins: 5 GND@1 (power), 6 GND@2 (power), 7 GND@3 (power), 8 GND@4 (power), 18 VCC@1 (power), 19 VCC@2 (power)

## 74AC11299D
designator IC?, comment 8-bit universal SHIFT/STORAGE REGISTER  (value not drawn)
footprint SO24W
part A pins: 1 A/QA, 2 B/QB, 3 C/QC, 4 D/QD, 9 E/QE, 10 F/QF, 11 G/QG, 12 H/QH, 13 QH' (out), 14 CLR, 15 CLK, 16 SR, 17 SL, 20 G2, 21 G1, 22 S1, 23 S0, 24 QA' (out)
part B pins: 5 GND@1 (power), 6 GND@2 (power), 7 GND@3 (power), 8 GND@4 (power), 18 VCC@1 (power), 19 VCC@2 (power)

## 74AC11352
designator IC?, comment Dual 4 to 1 line DATA SELECTOR/MULTIPLEXER  (value not drawn)
footprint DIL16
part A pins: 1 A, 2 B, 3 1Y (out), 5 2Y (out), 6 1G, 7 2G, 8 2C3, 9 2C2, 10 2C1, 11 2C0, 13 1C3, 14 1C2, 15 1C1, 16 1C0
part B pins: 4 GND (power), 12 VCC (power)

## 74AC11352D
designator IC?, comment Dual 4 to 1 line DATA SELECTOR/MULTIPLEXER  (value not drawn)
footprint SO16
part A pins: 1 A, 2 B, 3 1Y (out), 5 2Y (out), 6 1G, 7 2G, 8 2C3, 9 2C2, 10 2C1, 11 2C0, 13 1C3, 14 1C2, 15 1C1, 16 1C0
part B pins: 4 GND (power), 12 VCC (power)

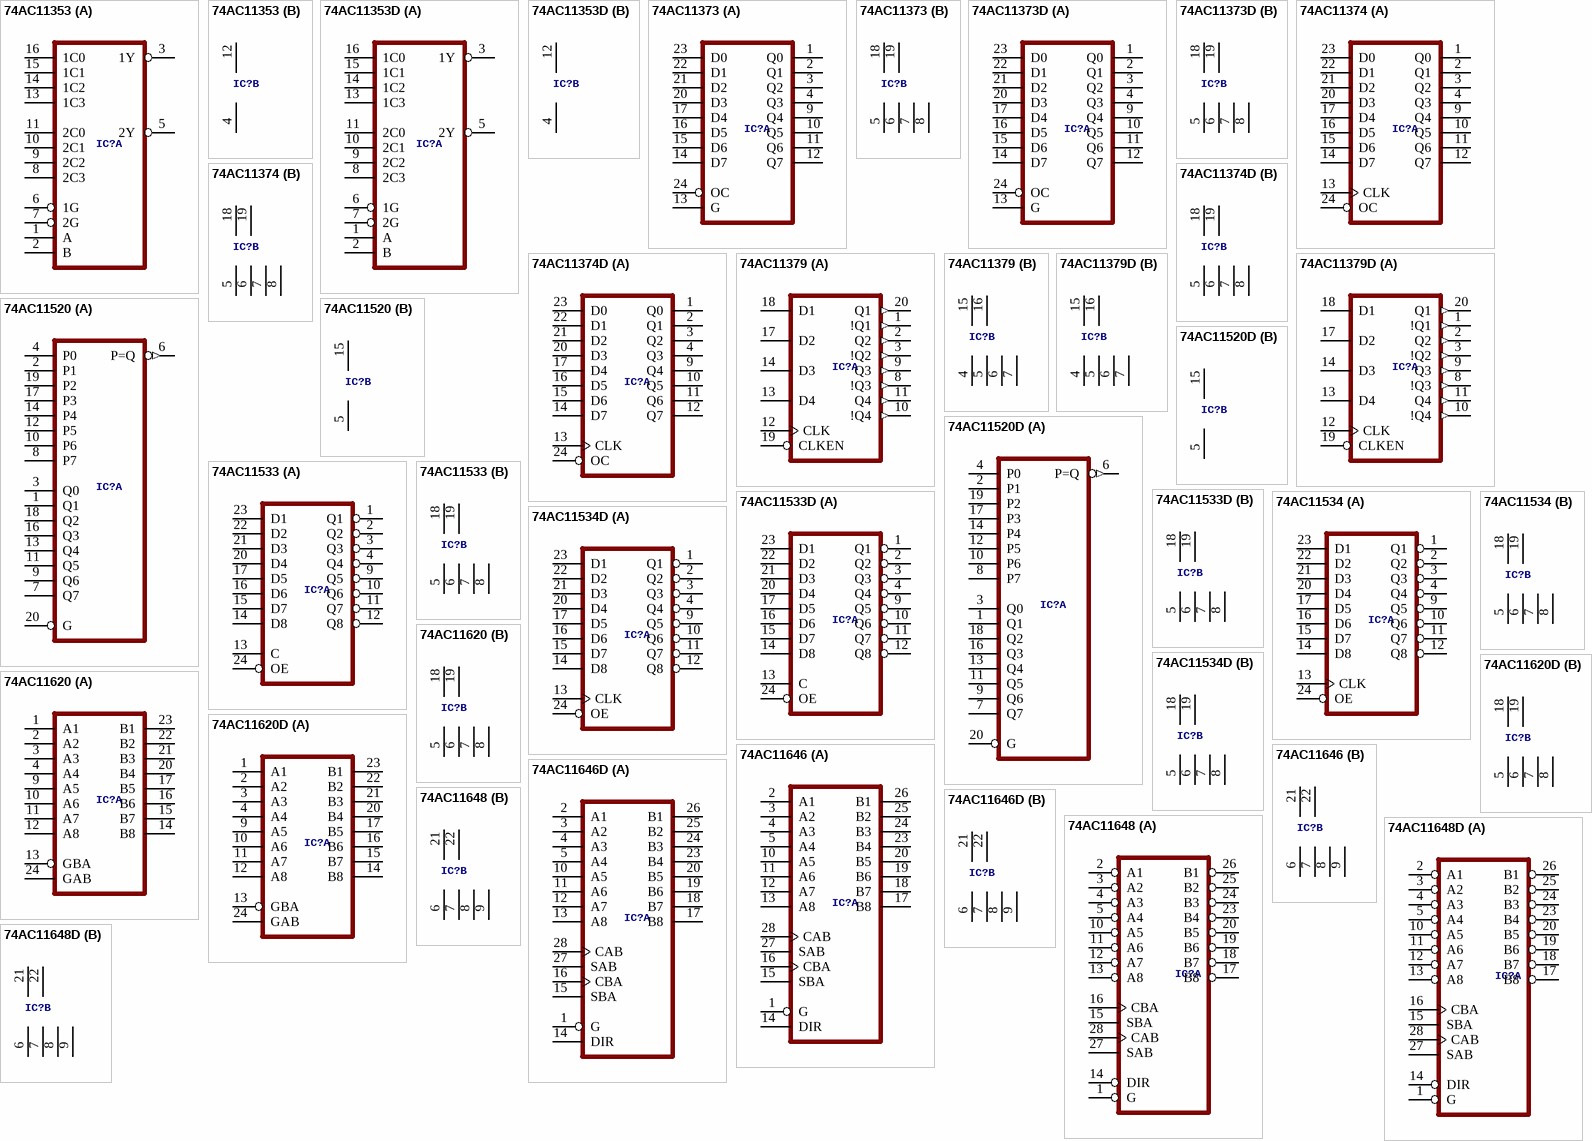
[diagram p6: symbols 74AC11353 to 74AC11648D]

## 74AC11353
designator IC?, comment Dual 4 to 1 line DATA SELECTOR/MULTIPLEXER  (value not drawn)
footprint DIL16
part A pins: 1 A, 2 B, 3 1Y (hiz), 5 2Y (hiz), 6 1G, 7 2G, 8 2C3, 9 2C2, 10 2C1, 11 2C0, 13 1C3, 14 1C2, 15 1C1, 16 1C0
part B pins: 4 GND (power), 12 VCC (power)

## 74AC11353D
designator IC?, comment Dual 4 to 1 line DATA SELECTOR/MULTIPLEXER  (value not drawn)
footprint SO16
part A pins: 1 A, 2 B, 3 1Y (hiz), 5 2Y (hiz), 6 1G, 7 2G, 8 2C3, 9 2C2, 10 2C1, 11 2C0, 13 1C3, 14 1C2, 15 1C1, 16 1C0
part B pins: 4 GND (power), 12 VCC (power)

## 74AC11373
designator IC?, comment Octal transparent D-type LATCH, 3-state  (value not drawn)
footprint DIL24-6
part A pins: 1 Q0 (hiz), 2 Q1 (hiz), 3 Q2 (hiz), 4 Q3 (hiz), 9 Q4 (hiz), 10 Q5 (hiz), 11 Q6 (hiz), 12 Q7 (hiz), 13 G, 14 D7, 15 D6, 16 D5, 17 D4, 20 D3, 21 D2, 22 D1, 23 D0, 24 OC
part B pins: 5 GND@1 (power), 6 GND@2 (power), 7 GND@3 (power), 8 GND@4 (power), 18 VCC@1 (power), 19 VCC@2 (power)

## 74AC11373D
designator IC?, comment Octal transparent D-type LATCH, 3-state  (value not drawn)
footprint SO24W
part A pins: 1 Q0 (hiz), 2 Q1 (hiz), 3 Q2 (hiz), 4 Q3 (hiz), 9 Q4 (hiz), 10 Q5 (hiz), 11 Q6 (hiz), 12 Q7 (hiz), 13 G, 14 D7, 15 D6, 16 D5, 17 D4, 20 D3, 21 D2, 22 D1, 23 D0, 24 OC
part B pins: 5 GND@1 (power), 6 GND@2 (power), 7 GND@3 (power), 8 GND@4 (power), 18 VCC@1 (power), 19 VCC@2 (power)

## 74AC11374
designator IC?, comment Octal D-type edge triggered FLIP FLOP, 3-state  (value not drawn)
footprint DIL24-6
part A pins: 1 Q0 (hiz), 2 Q1 (hiz), 3 Q2 (hiz), 4 Q3 (hiz), 9 Q4 (hiz), 10 Q5 (hiz), 11 Q6 (hiz), 12 Q7 (hiz), 13 CLK, 14 D7, 15 D6, 16 D5, 17 D4, 20 D3, 21 D2, 22 D1, 23 D0, 24 OC
part B pins: 5 GND@1 (power), 6 GND@2 (power), 7 GND@3 (power), 8 GND@4 (power), 18 VCC@1 (power), 19 VCC@2 (power)

## 74AC11374D
designator IC?, comment Octal D-type edge triggered FLIP FLOP, 3-state  (value not drawn)
footprint SO24W
part A pins: 1 Q0 (hiz), 2 Q1 (hiz), 3 Q2 (hiz), 4 Q3 (hiz), 9 Q4 (hiz), 10 Q5 (hiz), 11 Q6 (hiz), 12 Q7 (hiz), 13 CLK, 14 D7, 15 D6, 16 D5, 17 D4, 20 D3, 21 D2, 22 D1, 23 D0, 24 OC
part B pins: 5 GND@1 (power), 6 GND@2 (power), 7 GND@3 (power), 8 GND@4 (power), 18 VCC@1 (power), 19 VCC@2 (power)

## 74AC11379
designator IC?, comment Quadruple D-type FLIP FLOP, clock enable  (value not drawn)
footprint DIL20
part A pins: 1 !Q1 (out), 2 Q2 (out), 3 !Q2 (out), 8 !Q3 (out), 9 Q3 (out), 10 !Q4 (out), 11 Q4 (out), 12 CLK, 13 D4, 14 D3, 17 D2, 18 D1, 19 CLKEN, 20 Q1 (out)
part B pins: 4 GND@1 (power), 5 GND@2 (power), 6 GND@3 (power), 7 GND@4 (power), 15 VCC@1 (power), 16 VCC@2 (power)

## 74AC11379D
designator IC?, comment Quadruple D-type FLIP FLOP, clock enable  (value not drawn)
footprint SO20W
part A pins: 1 !Q1 (out), 2 Q2 (out), 3 !Q2 (out), 8 !Q3 (out), 9 Q3 (out), 10 !Q4 (out), 11 Q4 (out), 12 CLK, 13 D4, 14 D3, 17 D2, 18 D1, 19 CLKEN, 20 Q1 (out)
part B pins: 4 GND@1 (power), 5 GND@2 (power), 6 GND@3 (power), 7 GND@4 (power), 15 VCC@1 (power), 16 VCC@2 (power)

## 74AC11520
designator IC?, comment 8-bit IDENTITY COMPARATOR  (value not drawn)
footprint DIL20
part A pins: 1 Q1, 2 P1, 3 Q0, 4 P0, 6 P=Q (out), 7 Q7, 8 P7, 9 Q6, 10 P6, 11 Q5, 12 P5, 13 Q4, 14 P4, 16 Q3, 17 P3, 18 Q2, 19 P2, 20 G
part B pins: 5 GND (power), 15 VCC (power)

## 74AC11520D
designator IC?, comment 8-bit IDENTITY COMPARATOR  (value not drawn)
footprint SO20W
part A pins: 1 Q1, 2 P1, 3 Q0, 4 P0, 6 P=Q (out), 7 Q7, 8 P7, 9 Q6, 10 P6, 11 Q5, 12 P5, 13 Q4, 14 P4, 16 Q3, 17 P3, 18 Q2, 19 P2, 20 G
part B pins: 5 GND (power), 15 VCC (power)

## 74AC11533
designator IC?, comment Octal D-type transparent LATCH, 3-state  (value not drawn)
footprint DIL24-6
part A pins: 1 Q1 (hiz), 2 Q2 (hiz), 3 Q3 (hiz), 4 Q4 (hiz), 9 Q5 (hiz), 10 Q6 (hiz), 11 Q7 (hiz), 12 Q8 (hiz), 13 C, 14 D8, 15 D7, 16 D6, 17 D5, 20 D4, 21 D3, 22 D2, 23 D1, 24 OE
part B pins: 5 GND@1 (power), 6 GND@2 (power), 7 GND@3 (power), 8 GND@4 (power), 18 VCC@1 (power), 19 VCC@2 (power)

## 74AC11533D
designator IC?, comment Octal D-type transparent LATCH, 3-state  (value not drawn)
footprint SO24W
part A pins: 1 Q1 (hiz), 2 Q2 (hiz), 3 Q3 (hiz), 4 Q4 (hiz), 9 Q5 (hiz), 10 Q6 (hiz), 11 Q7 (hiz), 12 Q8 (hiz), 13 C, 14 D8, 15 D7, 16 D6, 17 D5, 20 D4, 21 D3, 22 D2, 23 D1, 24 OE
part B pins: 5 GND@1 (power), 6 GND@2 (power), 7 GND@3 (power), 8 GND@4 (power), 18 VCC@1 (power), 19 VCC@2 (power)

## 74AC11534
designator IC?, comment Octal D-type edge triggered FLIP FLOP, 3-state  (value not drawn)
footprint DIL24-6
part A pins: 1 Q1 (hiz), 2 Q2 (hiz), 3 Q3 (hiz), 4 Q4 (hiz), 9 Q5 (hiz), 10 Q6 (hiz), 11 Q7 (hiz), 12 Q8 (hiz), 13 CLK, 14 D8, 15 D7, 16 D6, 17 D5, 20 D4, 21 D3, 22 D2, 23 D1, 24 OE
part B pins: 5 GND@1 (power), 6 GND@2 (power), 7 GND@3 (power), 8 GND@4 (power), 18 VCC@1 (power), 19 VCC@2 (power)

## 74AC11534D
designator IC?, comment Octal D-type edge triggered FLIP FLOP, 3-state  (value not drawn)
footprint SO24W
part A pins: 1 Q1 (hiz), 2 Q2 (hiz), 3 Q3 (hiz), 4 Q4 (hiz), 9 Q5 (hiz), 10 Q6 (hiz), 11 Q7 (hiz), 12 Q8 (hiz), 13 CLK, 14 D8, 15 D7, 16 D6, 17 D5, 20 D4, 21 D3, 22 D2, 23 D1, 24 OE
part B pins: 5 GND@1 (power), 6 GND@2 (power), 7 GND@3 (power), 8 GND@4 (power), 18 VCC@1 (power), 19 VCC@2 (power)

## 74AC11620
designator IC?, comment Octal BUS TRANSCEIVER, 3-state  (value not drawn)
footprint DIL24-6
part A pins: 1 A1, 2 A2, 3 A3, 4 A4, 9 A5, 10 A6, 11 A7, 12 A8, 13 GBA, 14 B8, 15 B7, 16 B6, 17 B5, 20 B4, 21 B3, 22 B2, 23 B1, 24 GAB
part B pins: 5 GND@1 (power), 6 GND@2 (power), 7 GND@3 (power), 8 GND@4 (power), 18 VCC@1 (power), 19 VCC@2 (power)

## 74AC11620D
designator IC?, comment Octal BUS TRANSCEIVER, 3-state  (value not drawn)
footprint SO24W
part A pins: 1 A1, 2 A2, 3 A3, 4 A4, 9 A5, 10 A6, 11 A7, 12 A8, 13 GBA, 14 B8, 15 B7, 16 B6, 17 B5, 20 B4, 21 B3, 22 B2, 23 B1, 24 GAB
part B pins: 5 GND@1 (power), 6 GND@2 (power), 7 GND@3 (power), 8 GND@4 (power), 18 VCC@1 (power), 19 VCC@2 (power)

## 74AC11646
designator IC?, comment Octal BUS TRANSCEIVER/REGISTER  (value not drawn)
footprint DIL28-6
part A pins: 1 G, 2 A1, 3 A2, 4 A3, 5 A4, 10 A5, 11 A6, 12 A7, 13 A8, 14 DIR, 15 SBA, 16 CBA, 17 B8, 18 B7, 19 B6, 20 B5, 23 B4, 24 B3, 25 B2, 26 B1, 27 SAB, 28 CAB
part B pins: 6 GND@1 (power), 7 GND@2 (power), 8 GND@3 (power), 9 GND@4 (power), 21 VCC@1 (power), 22 VCC@2 (power)

## 74AC11646D
designator IC?, comment Octal BUS TRANSCEIVER/REGISTER  (value not drawn)
footprint SO28W
part A pins: 1 G, 2 A1, 3 A2, 4 A3, 5 A4, 10 A5, 11 A6, 12 A7, 13 A8, 14 DIR, 15 SBA, 16 CBA, 17 B8, 18 B7, 19 B6, 20 B5, 23 B4, 24 B3, 25 B2, 26 B1, 27 SAB, 28 CAB
part B pins: 6 GND@1 (power), 7 GND@2 (power), 8 GND@3 (power), 9 GND@4 (power), 21 VCC@1 (power), 22 VCC@2 (power)

## 74AC11648
designator IC?, comment Octal BUS TRANSCEIVER/REGISTER  (value not drawn)
footprint DIL28-3
part A pins: 1 G, 2 A1, 3 A2, 4 A3, 5 A4, 10 A5, 11 A6, 12 A7, 13 A8, 14 DIR, 15 SBA, 16 CBA, 17 B8, 18 B7, 19 B6, 20 B5, 23 B4, 24 B3, 25 B2, 26 B1, 27 SAB, 28 CAB
part B pins: 6 GND@1 (power), 7 GND@2 (power), 8 GND@3 (power), 9 GND@4 (power), 21 VCC@1 (power), 22 VCC@2 (power)

## 74AC11648D
designator IC?, comment Octal BUS TRANSCEIVER/REGISTER  (value not drawn)
footprint SO28W
part A pins: 1 G, 2 A1, 3 A2, 4 A3, 5 A4, 10 A5, 11 A6, 12 A7, 13 A8, 14 DIR, 15 SBA, 16 CBA, 17 B8, 18 B7, 19 B6, 20 B5, 23 B4, 24 B3, 25 B2, 26 B1, 27 SAB, 28 CAB
part B pins: 6 GND@1 (power), 7 GND@2 (power), 8 GND@3 (power), 9 GND@4 (power), 21 VCC@1 (power), 22 VCC@2 (power)

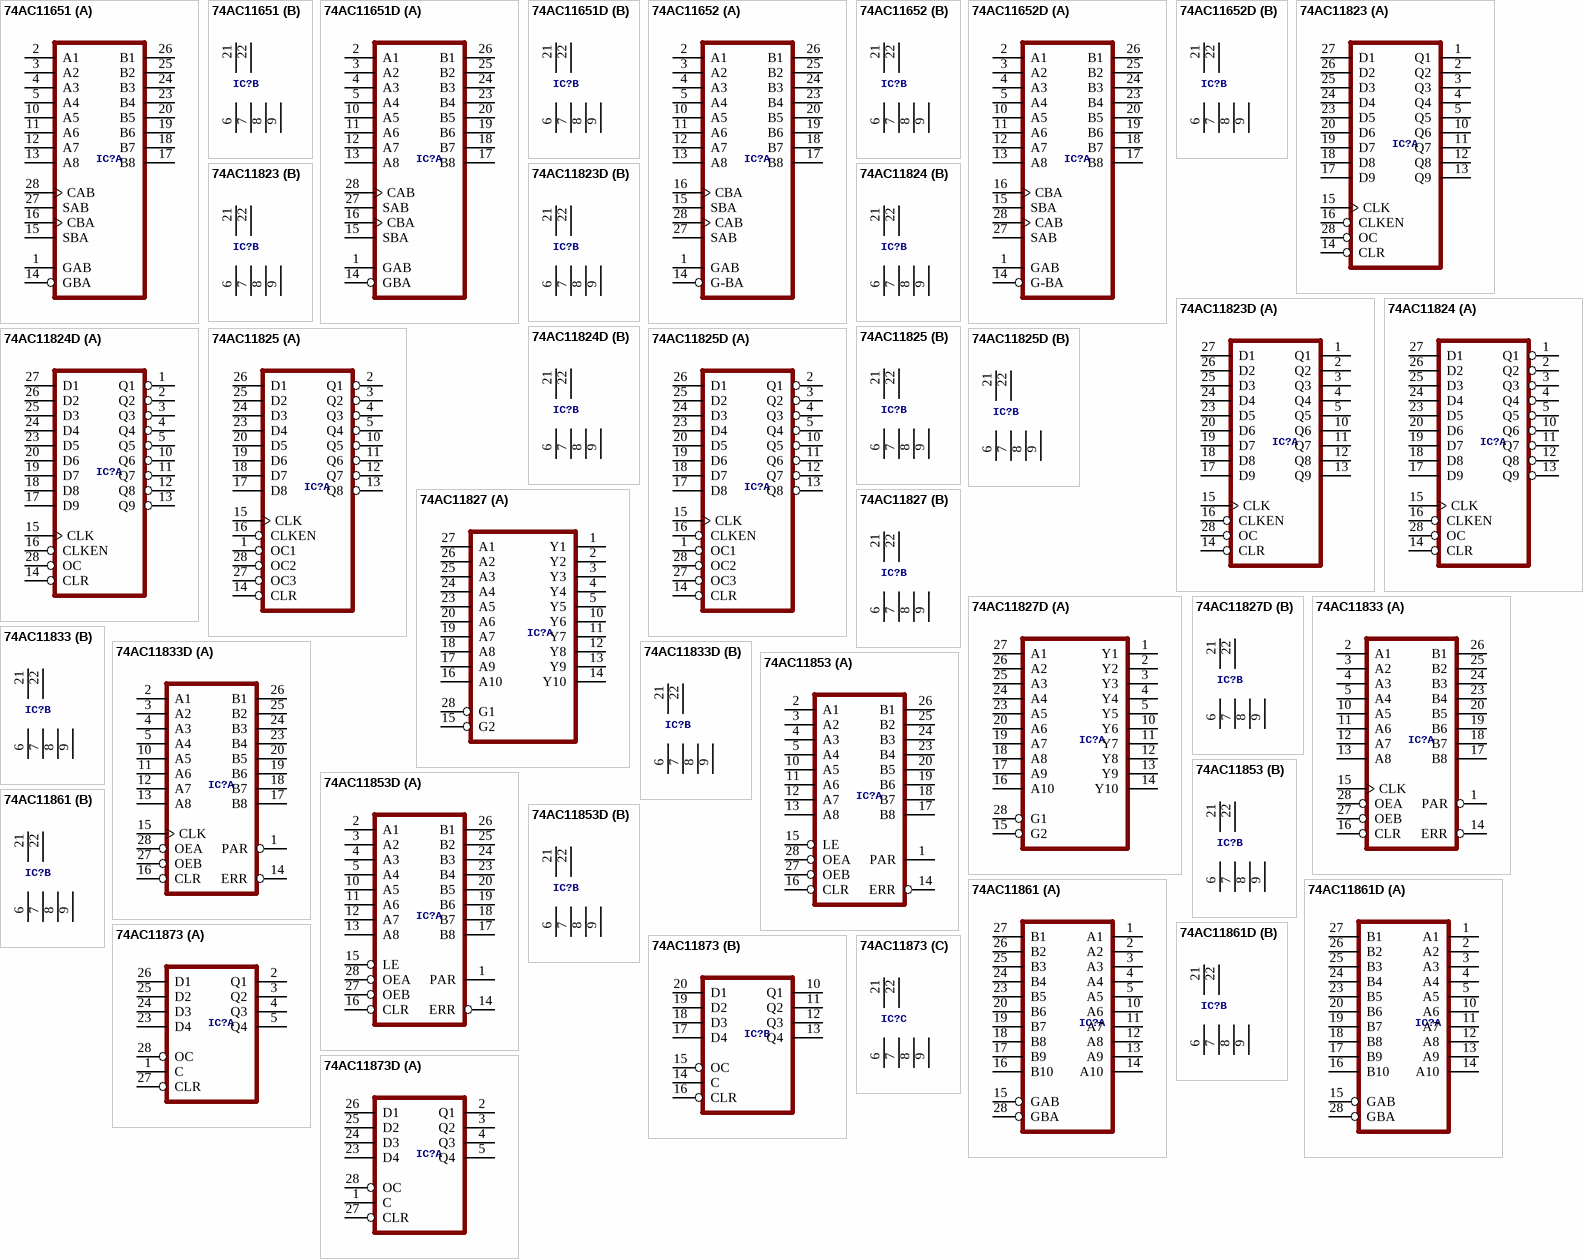
[diagram p7: symbols 74AC11651 to 74AC11873D]

## 74AC11651
designator IC?, comment Octal BUS TRANSCEIVER/REGISTER, 3-state  (value not drawn)
footprint DIL28-6
part A pins: 1 GAB, 2 A1, 3 A2, 4 A3, 5 A4, 10 A5, 11 A6, 12 A7, 13 A8, 14 GBA, 15 SBA, 16 CBA, 17 B8, 18 B7, 19 B6, 20 B5, 23 B4, 24 B3, 25 B2, 26 B1, 27 SAB, 28 CAB
part B pins: 6 GND@1 (power), 7 GND@2 (power), 8 GND@3 (power), 9 GND@4 (power), 21 VCC@1 (power), 22 VCC@2 (power)

## 74AC11651D
designator IC?, comment Octal BUS TRANSCEIVER/REGISTER, 3-state  (value not drawn)
footprint SO28W
part A pins: 1 GAB, 2 A1, 3 A2, 4 A3, 5 A4, 10 A5, 11 A6, 12 A7, 13 A8, 14 GBA, 15 SBA, 16 CBA, 17 B8, 18 B7, 19 B6, 20 B5, 23 B4, 24 B3, 25 B2, 26 B1, 27 SAB, 28 CAB
part B pins: 6 GND@1 (power), 7 GND@2 (power), 8 GND@3 (power), 9 GND@4 (power), 21 VCC@1 (power), 22 VCC@2 (power)

## 74AC11652
designator IC?, comment Octal BUS TRANSCEIVER/REGISTER, 3-state  (value not drawn)
footprint DIL28-3
part A pins: 1 GAB, 2 A1, 3 A2, 4 A3, 5 A4, 10 A5, 11 A6, 12 A7, 13 A8, 14 G-BA, 15 SBA, 16 CBA, 17 B8, 18 B7, 19 B6, 20 B5, 23 B4, 24 B3, 25 B2, 26 B1, 27 SAB, 28 CAB
part B pins: 6 GND@1 (power), 7 GND@2 (power), 8 GND@3 (power), 9 GND@4 (power), 21 VCC@1 (power), 22 VCC@2 (power)

## 74AC11652D
designator IC?, comment Octal BUS TRANSCEIVER/REGISTER, 3-state  (value not drawn)
footprint SO28W
part A pins: 1 GAB, 2 A1, 3 A2, 4 A3, 5 A4, 10 A5, 11 A6, 12 A7, 13 A8, 14 G-BA, 15 SBA, 16 CBA, 17 B8, 18 B7, 19 B6, 20 B5, 23 B4, 24 B3, 25 B2, 26 B1, 27 SAB, 28 CAB
part B pins: 6 GND@1 (power), 7 GND@2 (power), 8 GND@3 (power), 9 GND@4 (power), 21 VCC@1 (power), 22 VCC@2 (power)

## 74AC11823
designator IC?, comment 9-bit bus interface LATCH  (value not drawn)
footprint DIL28-6
part A pins: 1 Q1 (hiz), 2 Q2 (hiz), 3 Q3 (hiz), 4 Q4 (hiz), 5 Q5 (hiz), 10 Q6 (hiz), 11 Q7 (hiz), 12 Q8 (hiz), 13 Q9 (hiz), 14 CLR, 15 CLK, 16 CLKEN, 17 D9, 18 D8, 19 D7, 20 D6, 23 D5, 24 D4, 25 D3, 26 D2, 27 D1, 28 OC
part B pins: 6 GND@1 (power), 7 GND@2 (power), 8 GND@3 (power), 9 GND@4 (power), 21 VCC@1 (power), 22 VCC@2 (power)

## 74AC11823D
designator IC?, comment 9-bit bus interface LATCH  (value not drawn)
footprint SO28W
part A pins: 1 Q1 (hiz), 2 Q2 (hiz), 3 Q3 (hiz), 4 Q4 (hiz), 5 Q5 (hiz), 10 Q6 (hiz), 11 Q7 (hiz), 12 Q8 (hiz), 13 Q9 (hiz), 14 CLR, 15 CLK, 16 CLKEN, 17 D9, 18 D8, 19 D7, 20 D6, 23 D5, 24 D4, 25 D3, 26 D2, 27 D1, 28 OC
part B pins: 6 GND@1 (power), 7 GND@2 (power), 8 GND@3 (power), 9 GND@4 (power), 21 VCC@1 (power), 22 VCC@2 (power)

## 74AC11824
designator IC?, comment 9-bit inverting bus interface LATCH  (value not drawn)
footprint DIL28-6
part A pins: 1 Q1 (hiz), 2 Q2 (hiz), 3 Q3 (hiz), 4 Q4 (hiz), 5 Q5 (hiz), 10 Q6 (hiz), 11 Q7 (hiz), 12 Q8 (hiz), 13 Q9 (hiz), 14 CLR, 15 CLK, 16 CLKEN, 17 D9, 18 D8, 19 D7, 20 D6, 23 D5, 24 D4, 25 D3, 26 D2, 27 D1, 28 OC
part B pins: 6 GND@1 (power), 7 GND@2 (power), 8 GND@3 (power), 9 GND@4 (power), 21 VCC@1 (power), 22 VCC@2 (power)

## 74AC11824D
designator IC?, comment 9-bit inverting bus interface LATCH  (value not drawn)
footprint SO28W
part A pins: 1 Q1 (hiz), 2 Q2 (hiz), 3 Q3 (hiz), 4 Q4 (hiz), 5 Q5 (hiz), 10 Q6 (hiz), 11 Q7 (hiz), 12 Q8 (hiz), 13 Q9 (hiz), 14 CLR, 15 CLK, 16 CLKEN, 17 D9, 18 D8, 19 D7, 20 D6, 23 D5, 24 D4, 25 D3, 26 D2, 27 D1, 28 OC
part B pins: 6 GND@1 (power), 7 GND@2 (power), 8 GND@3 (power), 9 GND@4 (power), 21 VCC@1 (power), 22 VCC@2 (power)

## 74AC11825
designator IC?, comment 8-bit bus interface LATCH  (value not drawn)
footprint DIL28-6
part A pins: 1 OC1, 2 Q1 (hiz), 3 Q2 (hiz), 4 Q3 (hiz), 5 Q4 (hiz), 10 Q5 (hiz), 11 Q6 (hiz), 12 Q7 (hiz), 13 Q8 (hiz), 14 CLR, 15 CLK, 16 CLKEN, 17 D8, 18 D7, 19 D6, 20 D5, 23 D4, 24 D3, 25 D2, 26 D1, 27 OC3, 28 OC2
part B pins: 6 GND@1 (power), 7 GND@2 (power), 8 GND@3 (power), 9 GND@4 (power), 21 VCC@1 (power), 22 VCC@2 (power)

## 74AC11825D
designator IC?, comment 8-bit bus interface LATCH  (value not drawn)
footprint SO28W
part A pins: 1 OC1, 2 Q1 (hiz), 3 Q2 (hiz), 4 Q3 (hiz), 5 Q4 (hiz), 10 Q5 (hiz), 11 Q6 (hiz), 12 Q7 (hiz), 13 Q8 (hiz), 14 CLR, 15 CLK, 16 CLKEN, 17 D8, 18 D7, 19 D6, 20 D5, 23 D4, 24 D3, 25 D2, 26 D1, 27 OC3, 28 OC2
part B pins: 6 GND@1 (power), 7 GND@2 (power), 8 GND@3 (power), 9 GND@4 (power), 21 VCC@1 (power), 22 VCC@2 (power)

## 74AC11827
designator IC?, comment 10-bit BUFFER/BUS DRIVER, 3-state  (value not drawn)
footprint DIL28-6
part A pins: 1 Y1 (hiz), 2 Y2 (hiz), 3 Y3 (hiz), 4 Y4 (hiz), 5 Y5 (hiz), 10 Y6 (hiz), 11 Y7 (hiz), 12 Y8 (hiz), 13 Y9 (hiz), 14 Y10 (hiz), 15 G2, 16 A10, 17 A9, 18 A8, 19 A7, 20 A6, 23 A5, 24 A4, 25 A3, 26 A2, 27 A1, 28 G1
part B pins: 6 GND@1 (power), 7 GND@2 (power), 8 GND@3 (power), 9 GND@4 (power), 21 VCC@1 (power), 22 VCC@2 (power)

## 74AC11827D
designator IC?, comment 10-bit BUFFER/BUS DRIVER, 3-state  (value not drawn)
footprint SO28W
part A pins: 1 Y1 (hiz), 2 Y2 (hiz), 3 Y3 (hiz), 4 Y4 (hiz), 5 Y5 (hiz), 10 Y6 (hiz), 11 Y7 (hiz), 12 Y8 (hiz), 13 Y9 (hiz), 14 Y10 (hiz), 15 G2, 16 A10, 17 A9, 18 A8, 19 A7, 20 A6, 23 A5, 24 A4, 25 A3, 26 A2, 27 A1, 28 G1
part B pins: 6 GND@1 (power), 7 GND@2 (power), 8 GND@3 (power), 9 GND@4 (power), 21 VCC@1 (power), 22 VCC@2 (power)

## 74AC11833
designator IC?, comment PARITY GENERATOR/CHECKER  (value not drawn)
footprint DIL28-6
part A pins: 1 PAR, 2 A1, 3 A2, 4 A3, 5 A4, 10 A5, 11 A6, 12 A7, 13 A8, 14 ERR, 15 CLK, 16 CLR, 17 B8, 18 B7, 19 B6, 20 B5, 23 B4, 24 B3, 25 B2, 26 B1, 27 OEB, 28 OEA
part B pins: 6 GND@1 (power), 7 GND@2 (power), 8 GND@3 (power), 9 GND@4 (power), 21 VCC@1 (power), 22 VCC@2 (power)

## 74AC11833D
designator IC?, comment PARITY GENERATOR/CHECKER  (value not drawn)
footprint SO28W
part A pins: 1 PAR, 2 A1, 3 A2, 4 A3, 5 A4, 10 A5, 11 A6, 12 A7, 13 A8, 14 ERR, 15 CLK, 16 CLR, 17 B8, 18 B7, 19 B6, 20 B5, 23 B4, 24 B3, 25 B2, 26 B1, 27 OEB, 28 OEA
part B pins: 6 GND@1 (power), 7 GND@2 (power), 8 GND@3 (power), 9 GND@4 (power), 21 VCC@1 (power), 22 VCC@2 (power)

## 74AC11853
designator IC?, comment PARITY GENERATOR/CHECKER  (value not drawn)
footprint DIL28-6
part A pins: 1 PAR, 2 A1, 3 A2, 4 A3, 5 A4, 10 A5, 11 A6, 12 A7, 13 A8, 14 ERR, 15 LE, 16 CLR, 17 B8, 18 B7, 19 B6, 20 B5, 23 B4, 24 B3, 25 B2, 26 B1, 27 OEB, 28 OEA
part B pins: 6 GND@1 (power), 7 GND@2 (power), 8 GND@3 (power), 9 GND@4 (power), 21 VCC@1 (power), 22 VCC@2 (power)

## 74AC11853D
designator IC?, comment PARITY GENERATOR/CHECKER  (value not drawn)
footprint SO28W
part A pins: 1 PAR, 2 A1, 3 A2, 4 A3, 5 A4, 10 A5, 11 A6, 12 A7, 13 A8, 14 ERR, 15 LE, 16 CLR, 17 B8, 18 B7, 19 B6, 20 B5, 23 B4, 24 B3, 25 B2, 26 B1, 27 OEB, 28 OEA
part B pins: 6 GND@1 (power), 7 GND@2 (power), 8 GND@3 (power), 9 GND@4 (power), 21 VCC@1 (power), 22 VCC@2 (power)

## 74AC11861
designator IC?, comment 10-bit BUS BUFFER  (value not drawn)
footprint DIL28-6
part A pins: 1 A1 (hiz), 2 A2 (hiz), 3 A3 (hiz), 4 A4 (hiz), 5 A5 (hiz), 10 A6 (hiz), 11 A7 (hiz), 12 A8 (hiz), 13 A9 (hiz), 14 A10 (hiz), 15 GAB, 16 B10, 17 B9, 18 B8, 19 B7, 20 B6, 23 B5, 24 B4, 25 B3, 26 B2, 27 B1, 28 GBA
part B pins: 6 GND@1 (power), 7 GND@2 (power), 8 GND@3 (power), 9 GND@4 (power), 21 VCC@1 (power), 22 VCC@2 (power)

## 74AC11861D
designator IC?, comment 10-bit BUS BUFFER  (value not drawn)
footprint SO28W
part A pins: 1 A1 (hiz), 2 A2 (hiz), 3 A3 (hiz), 4 A4 (hiz), 5 A5 (hiz), 10 A6 (hiz), 11 A7 (hiz), 12 A8 (hiz), 13 A9 (hiz), 14 A10 (hiz), 15 GAB, 16 B10, 17 B9, 18 B8, 19 B7, 20 B6, 23 B5, 24 B4, 25 B3, 26 B2, 27 B1, 28 GBA
part B pins: 6 GND@1 (power), 7 GND@2 (power), 8 GND@3 (power), 9 GND@4 (power), 21 VCC@1 (power), 22 VCC@2 (power)

## 74AC11873
designator IC?, comment Dual 4-bit D type LATCH, 3-state  (value not drawn)
footprint DIL28-3
part A pins: 1 C, 2 Q1 (hiz), 3 Q2 (hiz), 4 Q3 (hiz), 5 Q4 (hiz), 23 D4, 24 D3, 25 D2, 26 D1, 27 CLR, 28 OC
part B pins: 10 Q1 (hiz), 11 Q2 (hiz), 12 Q3 (hiz), 13 Q4 (hiz), 14 C, 15 OC, 16 CLR, 17 D4, 18 D3, 19 D2, 20 D1
part C pins: 6 GND@1 (power), 7 GND@2 (power), 8 GND@3 (power), 9 GND@4 (power), 21 VCC@1 (power), 22 VCC@2 (power)

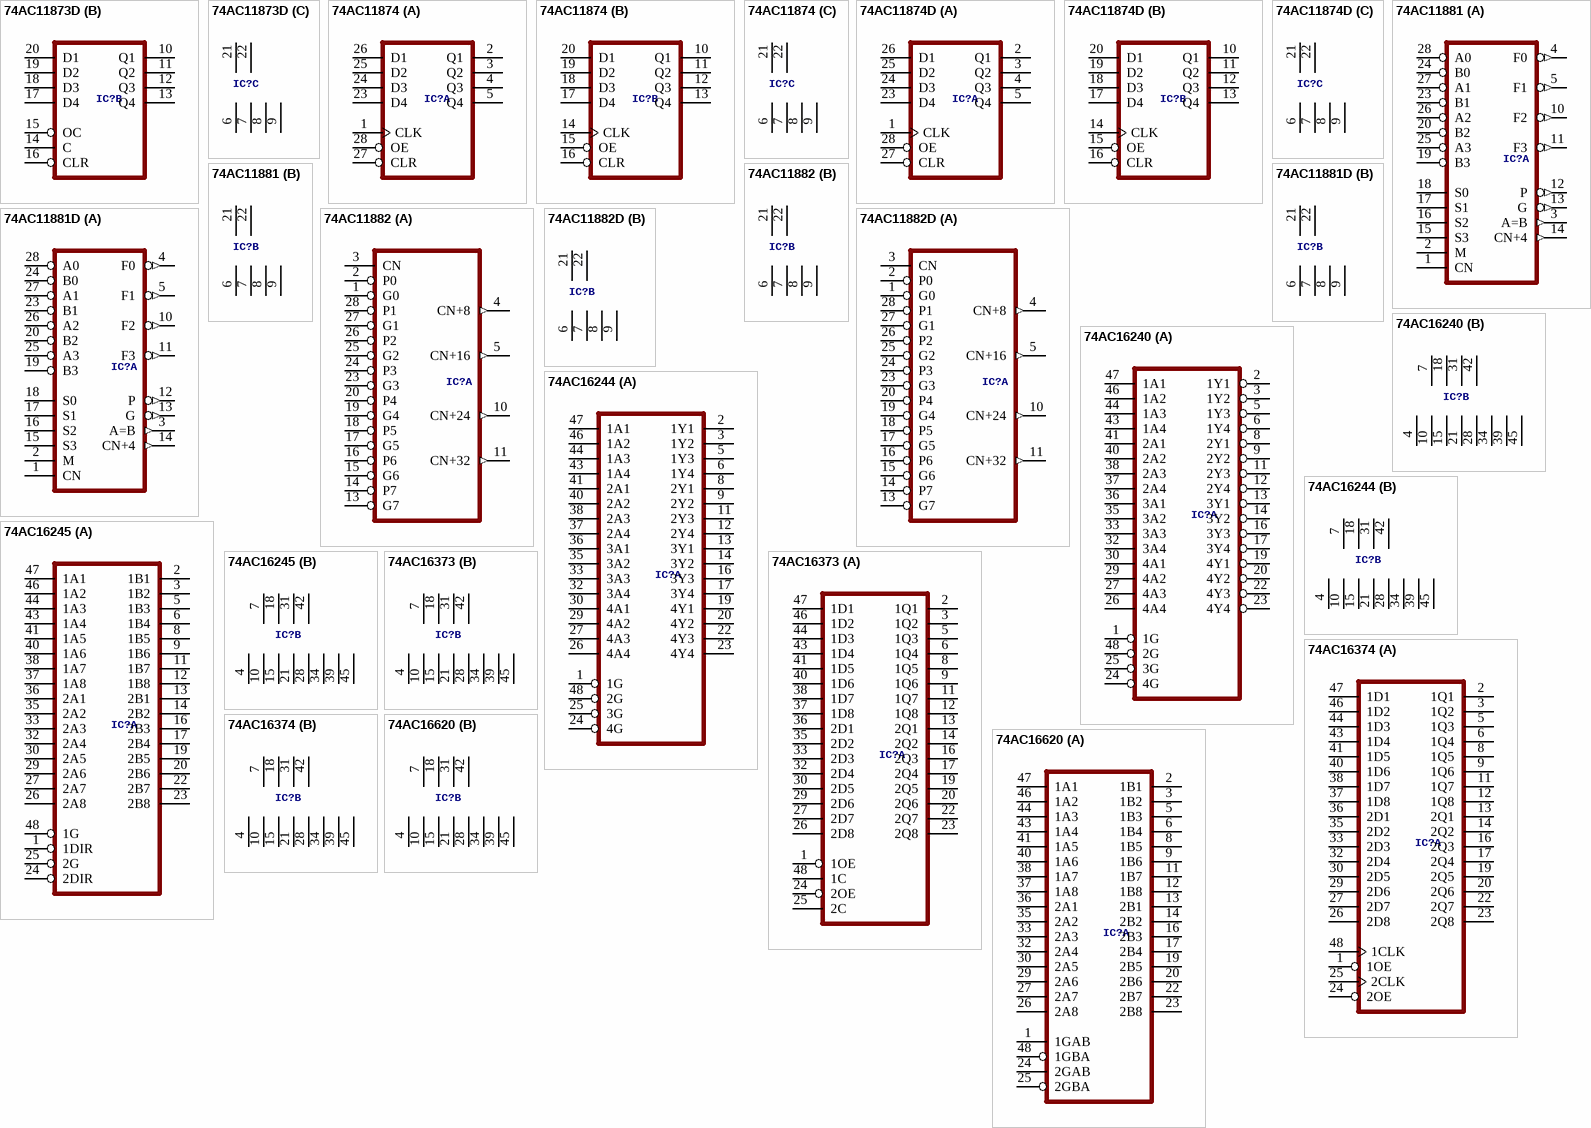
[diagram p8: symbols 74AC11873D to 74AC16620]

## 74AC11873D
designator IC?, comment Dual 4-bit D type LATCH, 3-state  (value not drawn)
footprint SO28W
part A pins: 1 C, 2 Q1 (hiz), 3 Q2 (hiz), 4 Q3 (hiz), 5 Q4 (hiz), 23 D4, 24 D3, 25 D2, 26 D1, 27 CLR, 28 OC
part B pins: 10 Q1 (hiz), 11 Q2 (hiz), 12 Q3 (hiz), 13 Q4 (hiz), 14 C, 15 OC, 16 CLR, 17 D4, 18 D3, 19 D2, 20 D1
part C pins: 6 GND@1 (power), 7 GND@2 (power), 8 GND@3 (power), 9 GND@4 (power), 21 VCC@1 (power), 22 VCC@2 (power)

## 74AC11874
designator IC?, comment Dual 4-bit D type edge triggered FLIP FLOP, 3-state  (value not drawn)
footprint DIL28-3
part A pins: 1 CLK, 2 Q1 (hiz), 3 Q2 (hiz), 4 Q3 (hiz), 5 Q4 (hiz), 23 D4, 24 D3, 25 D2, 26 D1, 27 CLR, 28 OE
part B pins: 10 Q1 (hiz), 11 Q2 (hiz), 12 Q3 (hiz), 13 Q4 (hiz), 14 CLK, 15 OE, 16 CLR, 17 D4, 18 D3, 19 D2, 20 D1
part C pins: 6 GND@1 (power), 7 GND@2 (power), 8 GND@3 (power), 9 GND@4 (power), 21 VCC@1 (power), 22 VCC@2 (power)

## 74AC11874D
designator IC?, comment Dual 4-bit D type edge triggered FLIP FLOP, 3-state  (value not drawn)
footprint SO28W
part A pins: 1 CLK, 2 Q1 (hiz), 3 Q2 (hiz), 4 Q3 (hiz), 5 Q4 (hiz), 23 D4, 24 D3, 25 D2, 26 D1, 27 CLR, 28 OE
part B pins: 10 Q1 (hiz), 11 Q2 (hiz), 12 Q3 (hiz), 13 Q4 (hiz), 14 CLK, 15 OE, 16 CLR, 17 D4, 18 D3, 19 D2, 20 D1
part C pins: 6 GND@1 (power), 7 GND@2 (power), 8 GND@3 (power), 9 GND@4 (power), 21 VCC@1 (power), 22 VCC@2 (power)

## 74AC11881
designator IC?, comment COMPARATOR  (value not drawn)
footprint DIL28-3
part A pins: 1 CN, 2 M, 3 A=B (out), 4 F0 (out), 5 F1 (out), 10 F2 (out), 11 F3 (out), 12 P (out), 13 G (out), 14 CN+4 (out), 15 S3, 16 S2, 17 S1, 18 S0, 19 B3, 20 B2, 23 B1, 24 B0, 25 A3, 26 A2, 27 A1, 28 A0
part B pins: 6 GND@1 (power), 7 GND@2 (power), 8 GND@3 (power), 9 GND@4 (power), 21 VCC@1 (power), 22 VCC@2 (power)

## 74AC11881D
designator IC?, comment COMPARATOR  (value not drawn)
footprint SO28W
part A pins: 1 CN, 2 M, 3 A=B (out), 4 F0 (out), 5 F1 (out), 10 F2 (out), 11 F3 (out), 12 P (out), 13 G (out), 14 CN+4 (out), 15 S3, 16 S2, 17 S1, 18 S0, 19 B3, 20 B2, 23 B1, 24 B0, 25 A3, 26 A2, 27 A1, 28 A0
part B pins: 6 GND@1 (power), 7 GND@2 (power), 8 GND@3 (power), 9 GND@4 (power), 21 VCC@1 (power), 22 VCC@2 (power)

## 74AC11882
designator IC?, comment COMPARATOR  (value not drawn)
footprint DIL28-6
part A pins: 1 G0, 2 P0, 3 CN, 4 CN+8 (out), 5 CN+16 (out), 10 CN+24 (out), 11 CN+32 (out), 13 G7, 14 P7, 15 G6, 16 P6, 17 G5, 18 P5, 19 G4, 20 P4, 23 G3, 24 P3, 25 G2, 26 P2, 27 G1, 28 P1
part B pins: 6 GND@1 (power), 7 GND@2 (power), 8 GND@3 (power), 9 GND@4 (power), 21 VCC@1 (power), 22 VCC@2 (power)

## 74AC11882D
designator IC?, comment COMPARATOR  (value not drawn)
footprint SO28W
part A pins: 1 G0, 2 P0, 3 CN, 4 CN+8 (out), 5 CN+16 (out), 10 CN+24 (out), 11 CN+32 (out), 13 G7, 14 P7, 15 G6, 16 P6, 17 G5, 18 P5, 19 G4, 20 P4, 23 G3, 24 P3, 25 G2, 26 P2, 27 G1, 28 P1
part B pins: 6 GND@1 (power), 7 GND@2 (power), 8 GND@3 (power), 9 GND@4 (power), 21 VCC@1 (power), 22 VCC@2 (power)

## 74AC16240
designator IC?, comment 16-bit BUS DRIVER, 3-state  (value not drawn)
footprint SSOP48DL
part A pins: 1 1G, 2 1Y1 (hiz), 3 1Y2 (hiz), 5 1Y3 (hiz), 6 1Y4 (hiz), 8 2Y1 (hiz), 9 2Y2 (hiz), 11 2Y3 (hiz), 12 2Y4 (hiz), 13 3Y1 (hiz), 14 3Y2 (hiz), 16 3Y3 (hiz), 17 3Y4 (hiz), 19 4Y1 (hiz), 20 4Y2 (hiz), 22 4Y3 (hiz), 23 4Y4 (hiz), 24 4G, 25 3G, 26 4A4, 27 4A3, 29 4A2, 30 4A1, 32 3A4, 33 3A3, 35 3A2, 36 3A1, 37 2A4, 38 2A3, 40 2A2, 41 2A1, 43 1A4, 44 1A3, 46 1A2, 47 1A1, 48 2G
part B pins: 4 GND@1 (power), 7 VCC@1 (power), 10 GND@2 (power), 15 GND@3 (power), 18 VCC@2 (power), 21 GND@4 (power), 28 GND@5 (power), 31 VCC@3 (power), 34 GND@6 (power), 39 GND@7 (power), 42 VCC@4 (power), 45 GND@8 (power)

## 74AC16244
designator IC?, comment 16-bit BUFFER/LINE DRIVER, 3-state  (value not drawn)
footprint SSOP48DL
part A pins: 1 1G, 2 1Y1 (hiz), 3 1Y2 (hiz), 5 1Y3 (hiz), 6 1Y4 (hiz), 8 2Y1 (hiz), 9 2Y2 (hiz), 11 2Y3 (hiz), 12 2Y4 (hiz), 13 3Y1 (hiz), 14 3Y2 (hiz), 16 3Y3 (hiz), 17 3Y4 (hiz), 19 4Y1 (hiz), 20 4Y2 (hiz), 22 4Y3 (hiz), 23 4Y4 (hiz), 24 4G, 25 3G, 26 4A4, 27 4A3, 29 4A2, 30 4A1, 32 3A4, 33 3A3, 35 3A2, 36 3A1, 37 2A4, 38 2A3, 40 2A2, 41 2A1, 43 1A4, 44 1A3, 46 1A2, 47 1A1, 48 2G
part B pins: 4 GND@1 (power), 7 VCC@1 (power), 10 GND@2 (power), 15 GND@3 (power), 18 VCC@2 (power), 21 GND@4 (power), 28 GND@5 (power), 31 VCC@3 (power), 34 GND@6 (power), 39 GND@7 (power), 42 VCC@4 (power), 45 GND@8 (power)

## 74AC16245
designator IC?, comment 16-bit BUS TRANSCEIVER, 3-state  (value not drawn)
footprint SSOP48DL
part A pins: 1 1DIR, 2 1B1, 3 1B2, 5 1B3, 6 1B4, 8 1B5, 9 1B6, 11 1B7, 12 1B8, 13 2B1, 14 2B2, 16 2B3, 17 2B4, 19 2B5, 20 2B6, 22 2B7, 23 2B8, 24 2DIR, 25 2G, 26 2A8, 27 2A7, 29 2A6, 30 2A5, 32 2A4, 33 2A3, 35 2A2, 36 2A1, 37 1A8, 38 1A7, 40 1A6, 41 1A5, 43 1A4, 44 1A3, 46 1A2, 47 1A1, 48 1G
part B pins: 4 GND@1 (power), 7 VCC@1 (power), 10 GND@2 (power), 15 GND@3 (power), 18 VCC@2 (power), 21 GND@4 (power), 28 GND@5 (power), 31 VCC@3 (power), 34 GND@6 (power), 39 GND@7 (power), 42 VCC@4 (power), 45 GND@8 (power)

## 74AC16373
designator IC?, comment 16-bit transparent D-type LATCH, 3-state  (value not drawn)
footprint SSOP48DL
part A pins: 1 1OE, 2 1Q1 (hiz), 3 1Q2 (hiz), 5 1Q3 (hiz), 6 1Q4 (hiz), 8 1Q5 (hiz), 9 1Q6 (hiz), 11 1Q7 (hiz), 12 1Q8 (hiz), 13 2Q1 (hiz), 14 2Q2 (hiz), 16 2Q3 (hiz), 17 2Q4 (hiz), 19 2Q5 (hiz), 20 2Q6 (hiz), 22 2Q7 (hiz), 23 2Q8 (hiz), 24 2OE, 25 2C, 26 2D8, 27 2D7, 29 2D6, 30 2D5, 32 2D4, 33 2D3, 35 2D2, 36 2D1, 37 1D8, 38 1D7, 40 1D6, 41 1D5, 43 1D4, 44 1D3, 46 1D2, 47 1D1, 48 1C
part B pins: 4 GND@1 (power), 7 VCC@1 (power), 10 GND@2 (power), 15 GND@3 (power), 18 VCC@2 (power), 21 GND@4 (power), 28 GND@5 (power), 31 VCC@3 (power), 34 GND@6 (power), 39 GND@7 (power), 42 VCC@4 (power), 45 GND@8 (power)

## 74AC16374
designator IC?, comment 16-bit edge-triggered D-type FLIP FLOP, 3-state  (value not drawn)
footprint SSOP48DL
part A pins: 1 1OE, 2 1Q1 (hiz), 3 1Q2 (hiz), 5 1Q3 (hiz), 6 1Q4 (hiz), 8 1Q5 (hiz), 9 1Q6 (hiz), 11 1Q7 (hiz), 12 1Q8 (hiz), 13 2Q1 (hiz), 14 2Q2 (hiz), 16 2Q3 (hiz), 17 2Q4 (hiz), 19 2Q5 (hiz), 20 2Q6 (hiz), 22 2Q7 (hiz), 23 2Q8 (hiz), 24 2OE, 25 2CLK, 26 2D8, 27 2D7, 29 2D6, 30 2D5, 32 2D4, 33 2D3, 35 2D2, 36 2D1, 37 1D8, 38 1D7, 40 1D6, 41 1D5, 43 1D4, 44 1D3, 46 1D2, 47 1D1, 48 1CLK
part B pins: 4 GND@1 (power), 7 VCC@1 (power), 10 GND@2 (power), 15 GND@3 (power), 18 VCC@2 (power), 21 GND@4 (power), 28 GND@5 (power), 31 VCC@3 (power), 34 GND@6 (power), 39 GND@7 (power), 42 VCC@4 (power), 45 GND@8 (power)